# Altium schematic symbol library CompleteLibrary.SchLib: 558 symbols (part 3 of 4)
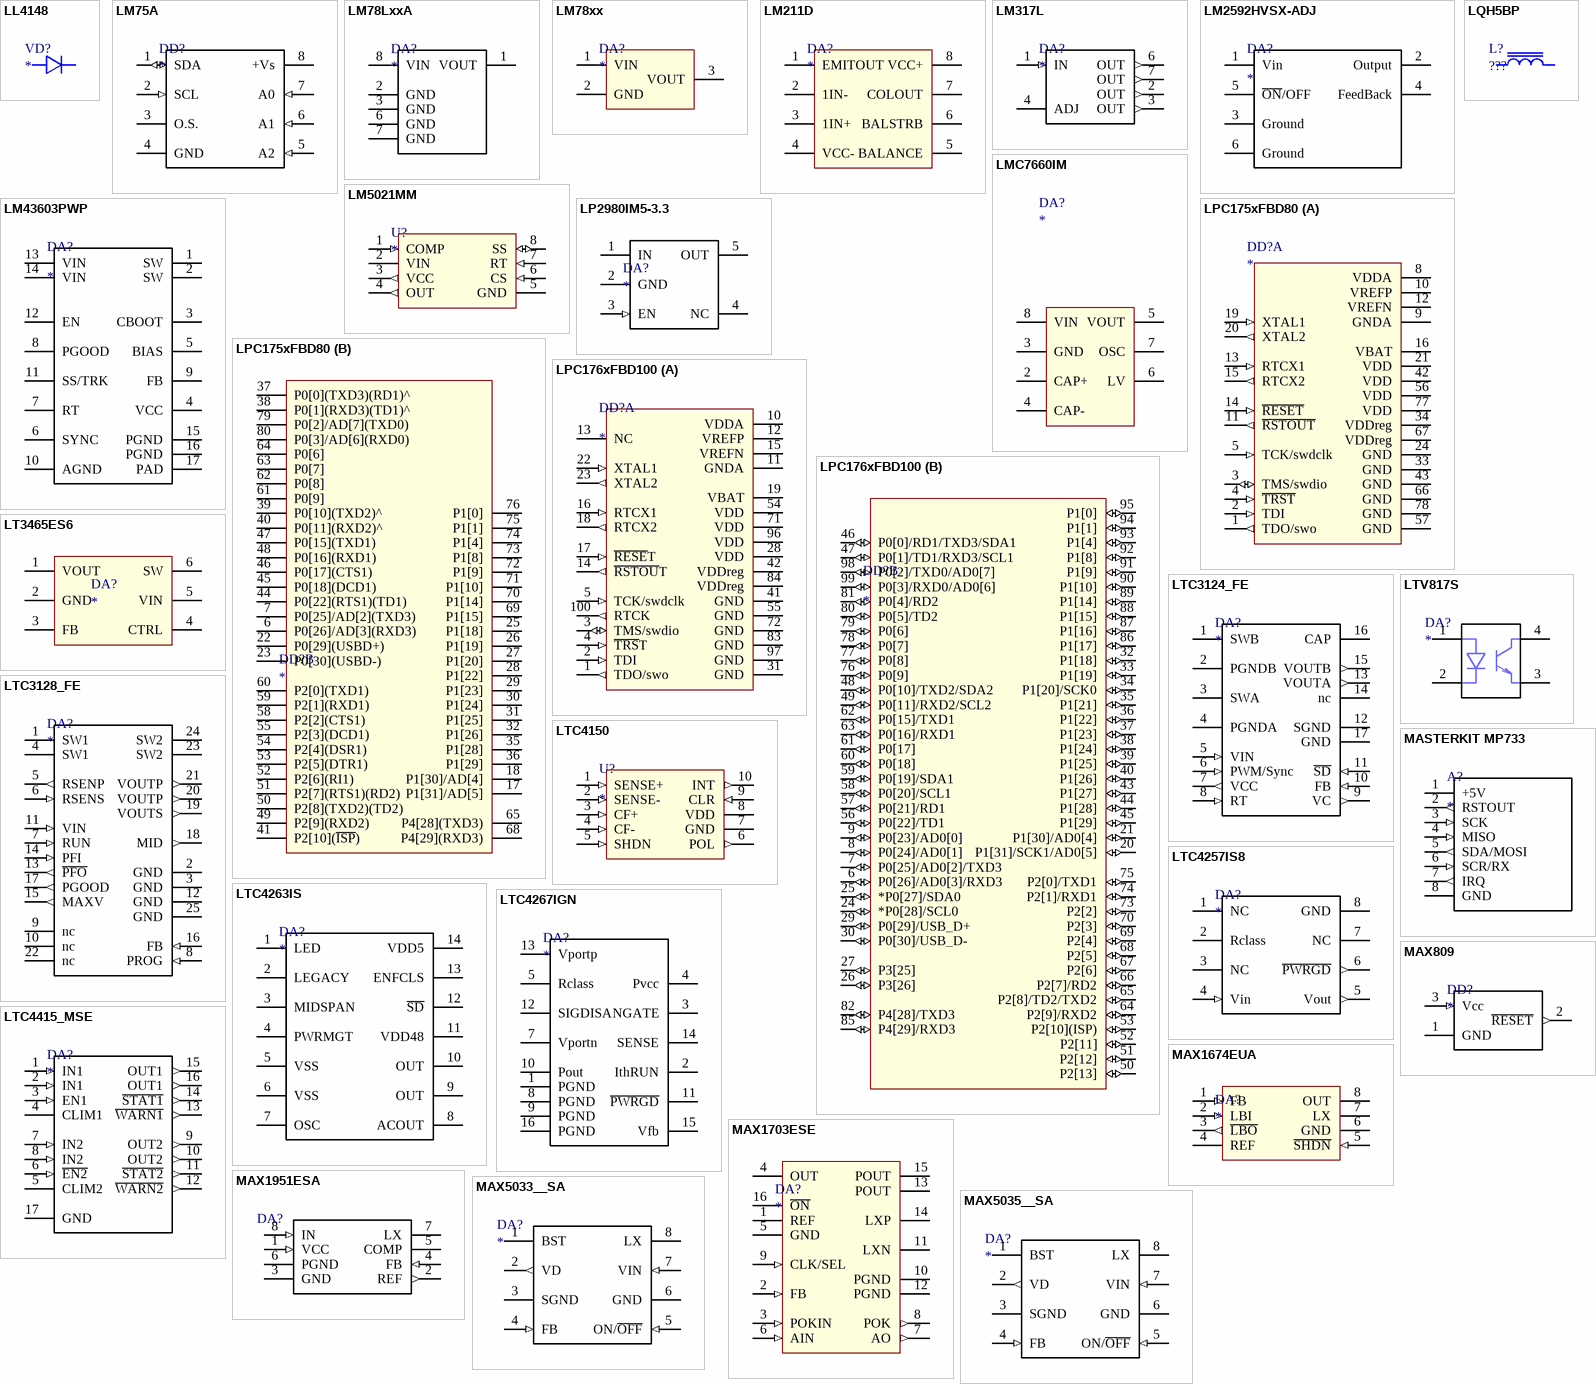
[diagram p27: symbols LL4148 to MAX5035__SA]

## LPC176xFBD100
designator DD?
IC 32-bit ARM Cortex-M3 microcontroller; Описание: ???; NumberSolderPointsSMD: 0; Аналог: нет; NumberSolderPointsTHT: 0
footprint TQFP100
part A pins: 1 TDO/swo (out), 2 TDI (in), 3 TMS/swdio (io), 4 ~{TRS}T (in), 5 TCK/swdclk (in), 10 VDDA (power), 11 GNDA (power), 12 VREFP (power), 13 NC, 14 ~{RSTOU}T (out), 15 VREFN (power), 16 RTCX1 (in), 17 ~{RESE}T (in), 18 RTCX2 (out), 19 VBAT (power), 22 XTAL1 (in), 23 XTAL2 (out), 28 VDD (power), 31 GND (power), 41 GND (power), 42 VDDreg (power), 54 VDD (power), 55 GND (power), 71 VDD (power), 72 GND (power), 83 GND (power), 84 VDDreg (power), 96 VDD (power), 97 GND (power), 100 RTCK (out)
part B pins: 6 P0[26]/AD0[3]/RXD3 (io), 7 P0[25]/AD0[2]/TXD3 (io) "/AD0[2]/I2SRX_SDA/TXD3", 8 P0[24]/AD0[1] (io) "/AD0[1]/I2SRX_WS/CAP3[1]", 9 P0[23]/AD0[0] (io) "/AD0[0]/I2SRX_CLK/CAP3[0]", 20 P1[31]/SCK1/AD0[5] (io) "/SCK1/AD0[5]", 21 P1[30]/AD0[4] (io) "/VBUS/AD0[4]", 24 *P0[28]/SCL0 (io) "/SCL0/USB_SCL", 25 *P0[27]/SDA0 (io) "/SDA0/USB_SDA", 26 P3[26] (io) "/STCLK/MAT0[1]/PWM1[3]", 27 P3[25] (io) "/MAT0[0]/PWM1[2]", 29 P0[29]/USB_D+ (io) "/USB_D+", 30 P0[30]/USB_D- (io) "/USB_D-", 32 P1[18] (io) "/USB_UP_LED/PWM1[1]/CAP1[0]", 33 P1[19] (io) "/MCOA0/USB_PPWR/CAP1[1]", 34 P1[20]/SCK0 (io) "/MCI0/PWM1[2]/SCK0", 35 P1[21] (io) "/MCABORT/PWM1[3]/SSEL0", 36 P1[22] (io) "/MCOB0/USB_PWRD/MAT1[0]", 37 P1[23] (io) "/MCI1/PWM1[4]/MISO0", 38 P1[24] (io) "/MCI2/PWM1[5]/MOSI0", 39 P1[25] (io) "/MCOA1/MAT1[1]", 40 P1[26] (io) "/MCOB1/PWM1[6]/CAP0[0]", 43 P1[27] (io) "/CLKOUT/USB_OVRCR/CAP0[1]", 44 P1[28] (io) "/MCOA2/PCAP1[0]/MAT0[0]", 45 P1[29] (io) "/MCOB2/PCAP1[1]/MAT0[1]", 46 P0[0]/RD1/TXD3/SDA1 (io) "/RD1/TXD3/SDA1", 47 P0[1]/TD1/RXD3/SCL1 (io) "/TD1/RXD3/SCL1", 48 P0[10]/TXD2/SDA2 (io) "/TXD2/SDA2/MAT3[0]", 49 P0[11]/RXD2/SCL2 (io) "/RXD2/SCL2/MAT3[1]", 50 P2[13] (io) "/EINT3/I2STX_SDA", 51 P2[12] (io) "/EINT2/I2STX_WS", 52 P2[11] (io) "/EINT1/I2STX_CLK", 53 P2[10](ISP) (io) "/EINT0/NMI", 56 P0[22]/TD1 (io) "/RTS1/TD1", 57 P0[21]/RD1  (io) "/RI1/RD1", 58 P0[20]/SCL1 (io) "/DTR1/SCL1", 59 P0[19]/SDA1 (io) "/DSR1/SDA1", 60 P0[18] (io) "/DCD1/MOSI0/MOSI", 61 P0[17] (io) "/CTS1/MISO0/MISO", 62 P0[15]/TXD1 (io) "/TXD1/SCK0/SCK", 63 P0[16]/RXD1 (io) "/RXD1/SSEL0/SSEL", 64 P2[9]/RXD2 (io) "/USB_CONNECT/RXD2", 65 P2[8]/TD2/TXD2 (io) "/TD2/TXD2", 66 P2[7]/RD2 (io) "/RD2/RTS1", 67 P2[6] (io) "/PCAP1[0]/RI1/TRACECLK", 68 P2[5] (io) "/PWM1[6]/DTR1/TRACEDATA[0]", 69 P2[4] (io) "/PWM1[5]/DSR1/TRACEDATA[1]", 70 P2[3] (io) "/PWM1[4]/DCD1/TRACEDATA[2]", 73 P2[2] (io) "/PWM1[3]/CTS1/TRACEDATA[3]", 74 P2[1]/RXD1 (io) "/PWM1[2]/RXD1", 75 P2[0]/TXD1 (io) "/PWM1[1]/TXD1", 76 P0[9] (io) "/I2STX_SDA/MOSI1/MAT2[3]", 77 P0[8] (io) "/I2STX_WS/MISO1/MAT2[2]", 78 P0[7] (io) "/I2STX_CLK/SCK1/MAT2[1]", 79 P0[6] (io) "/I2SRX_SDA/SSEL1/MAT2[0]", 80 P0[5]/TD2 (io) "/I2SRX_WS/TD2/CAP2[1]", 81 P0[4]/RD2 (io) "/I2SRX_CLK/RD2/CAP2[0]", 82 P4[28]/TXD3 (io) "/RX_MCLK/MAT2[0]/TXD3", 85 P4[29]/RXD3 (io) "/TX_MCLK/MAT2[1]/RXD3", 86 P1[17] (io) "/ENET_MDIO", 87 P1[16] (io) "/ENET_MDC", 88 P1[15] (io) "/ENET_REF_CLK", 89 P1[14] (io) "/ENET_RX_ER", 90 P1[10] (io) "/ENET_RXD1", 91 P1[9] (io) "/ENET_RXD0", 92 P1[8] (io) "/ENET_CRS", 93 P1[4] (io) "/ENET_TX_EN", 94 P1[1] (io) "/ENET_TXD1", 95 P1[0] (io) "/ENET_TXD0", 98 P0[2]/TXD0/AD0[7] (io) "/TXD0/AD0[7]", 99 P0[3]/RXD0/AD0[6] (io) "/RXD0/AD0[6]"

## LQH5BP
designator L?, comment ???
MAGNETIC Inductor SMD 2020 2.2mm; Описание: Индуктивность SMD 2020; NumberSolderPointsSMD: 0; Аналог: нет; NumberSolderPointsTHT: 0
footprint LQH5BP
pins: 1, 2

## LT3465ES6
designator DA?
IC 1.2MHz White LED Drivers with Built-in  Schottky; Описание: ???; NumberSolderPointsSMD: 0; Аналог: нет; NumberSolderPointsTHT: 0
footprint SOT23-6
pins: 1 VOUT, 2 GND, 3 FB, 4 CTRL, 5 VIN, 6 SW

## LTC3124_FE
designator DA?
IC 5A Step-Up; Аналог: нет; Описание: ???
footprint TSSOP16_LTC
pins: 1 SWB, 2 PGNDB, 3 SWA, 4 PGNDA, 5 VIN (in), 6 PWM/Sync (in), 7 VCC (out), 8 RT (in), 9 VC (out), 10 FB (in), 11 ~{SD} (in), 12 SGND, 13 VOUTA (out), 14  nc, 15 VOUTB (out), 16 CAP, 17 GND

## LTC3128_FE
designator DA?
IC 3A Supercapacitor Charger; Аналог: нет; Описание: ???
footprint TSSOP24_LTC
pins: 1 SW1 (power), 2 GND (power), 3 GND (power), 4 SW1 (power), 5 RSENP (out), 6 RSENS (in), 7 RUN (in), 8 PROG (in), 9 nc (power), 10 nc (power), 11 VIN (in), 12 GND (power), 13 ~{PFO} (out), 14 PFI (in), 15 MAXV (out), 16 FB (in), 17 PGOOD (out), 18 MID (out), 19 VOUTS (out), 20 VOUTP (out), 21 VOUTP (out), 22 nc (power), 23 SW2 (power), 24 SW2 (power), 25 GND (power)

## LTC4150
designator U?
IC Coulomb Counter/Battery Gas Gauge; Описание: ???; NumberSolderPointsSMD: 0; Аналог: нет; NumberSolderPointsTHT: 0
pins: 1 SENSE+ (in), 2 SENSE- (in), 3 CF+ (in), 4 CF- (in), 5 SHDN (in), 6 POL (out), 7 GND (power), 8 VDD (power), 9 CLR (in), 10 INT (out)

## LTC4257IS8
designator DA?
IC PoE interface controller; Аналог: нет; Описание: Микросхема SO8
footprint SO8
pins: 1 NC, 2 Rclass, 3 NC, 4 Vin (in), 5 Vout (out), 6 ~{PWRGD} (out), 7 NC, 8 GND (power)

## LTC4263IS
designator DA?
IC; Описание: Микросхема SO14; Аналог: нет
footprint SO14
pins: 1 LED, 2 LEGACY, 3 MIDSPAN, 4 PWRMGT, 5 VSS, 6 VSS, 7 OSC, 8 ACOUT, 9 OUT, 10 OUT, 11 VDD48, 12 ~{SD}, 13 ENFCLS, 14 VDD5

## LTC4267IGN
designator DA?
IC PoE interface; Аналог: нет; Описание: ???
footprint SSOP16_ADS7846E
pins: 1 PGND, 2 IthRUN, 3 NGATE, 4 Pvcc, 5 Rclass, 7 Vportn, 8 PGND, 9 PGND, 10 Pout, 11 ~{PWRGD}, 12 SIGDISA, 13 Vportp, 14 SENSE, 15 Vfb, 16 PGND

## LTC4415_MSE
designator DA?
IC Dual 4A Ideal Diodes; Аналог: нет; Описание: ???
footprint MSOP16_LTC
pins: 1 IN1 (in), 2 IN1 (in), 3 EN1 (in), 4 CLIM1, 5 CLIM2, 6 ~{EN2} (in), 7 IN2 (in), 8 IN2 (in), 9 OUT2 (out), 10 OUT2 (out), 11 ~{STAT2} (out), 12 ~{WARN2} (out), 13 ~{WARN1} (out), 14 ~{STAT1} (out), 15 OUT1 (out), 16 OUT1 (out), 17 GND (power)

## LTV817S
designator DA?
IC Photocoupler; Описание: Оптрон SO4; NumberSolderPointsSMD: 0; Аналог: нет; NumberSolderPointsTHT: 0
footprint SO4_LTV817S
pins: 1, 2, 3, 4

## MASTERKIT MP733
designator A?
MODULE RADIO; Описание: Радиомодуль; Аналог: нет
footprint MASTERKIT MP733
pins: 1 +5V (power), 2 RSTOUT (out), 3 SCK (in), 4 MISO (in), 5 SDA/MOSI (out), 6 SCR/RX (in), 7 IRQ (out), 8 GND (power)

## MAX809
designator DD?
IC 3-pin microprocessor resets; Описание: ???; NumberSolderPointsSMD: 0; Аналог: нет; NumberSolderPointsTHT: 0
footprint SOT23
pins: 1 GND (power), 2 ~{RESET} (out), 3 Vcc (in)

## MAX1674EUA
designator DA?
IC Step-Up DC-DC Converter; Описание: ???; NumberSolderPointsSMD: 0; Аналог: нет; NumberSolderPointsTHT: 0
footprint uMAX8_MAX1674
pins: 1 FB (in), 2 LBI (in), 3 ~{LBO} (out), 4 REF, 5 ~{SHDN} (in), 6 GND (power), 7 LX (power), 8 OUT (power)

## MAX1703ESE
designator DA?
IC 0.7V to 5.5V Input, High-Power (1.5A), Low-Noise, Step-Up DC-DC Converter; Описание: ???; NumberSolderPointsSMD: 0; Аналог: нет; NumberSolderPointsTHT: 0
footprint SO16
pins: 1 REF, 2 FB (in), 3 POKIN (in), 4 OUT, 5 GND, 6 AIN (in), 7 AO (out), 8 POK (out), 9 CLK/SEL (in), 10 PGND, 11 LXN, 12 PGND, 13 POUT, 14 LXP, 15 POUT, 16 ~{ON}

## MAX1951ESA
designator DA?  (value not drawn)
IC 1MHz, 2.6V to 5.5V Input, 2A PWM Step-Down DC-to-DC Regulator, Adjustable Output from 0.8V to VIN; Описание: ???; NumberSolderPointsSMD: 0; Аналог: нет; NumberSolderPointsTHT: 0
footprint SO8
pins: 1 VCC (in), 2 REF (out), 3 GND (power), 4 FB (in), 5 COMP, 6 PGND (power), 7 LX (power), 8 IN (in)

## MAX5033__SA
designator DA?
IC StepDown 0.5A 7.5..76V 125kHz; Описание: ???; NumberSolderPointsSMD: 8; NumberSolderPointsTHT: 0; Аналог: нет; x: MAX5033AASA: 3.3V  MAX5033BASA: 5.0V  MAX5033CASA: 12.0V  MAX5033DASA: ADJ; Комплект: *
footprint SO8
pins: 1 BST, 2 VD (out), 3 SGND (power), 4 FB (in), 5 ON/~{OFF} (in), 6 GND (power), 7 VIN (in), 8 LX

## MAX5035__SA
designator DA?
IC StepDown 1A 7.5..76V 125kHz; Описание: ???; NumberSolderPointsSMD: 8; NumberSolderPointsTHT: 0; Аналог: нет; x: MAX5035AASA: 3.3V  MAX5035BASA: 5.0V; Комплект: *
footprint SO8
pins: 1 BST, 2 VD (out), 3 SGND (power), 4 FB (in), 5 ON/~{OFF} (in), 6 GND (power), 7 VIN (in), 8 LX

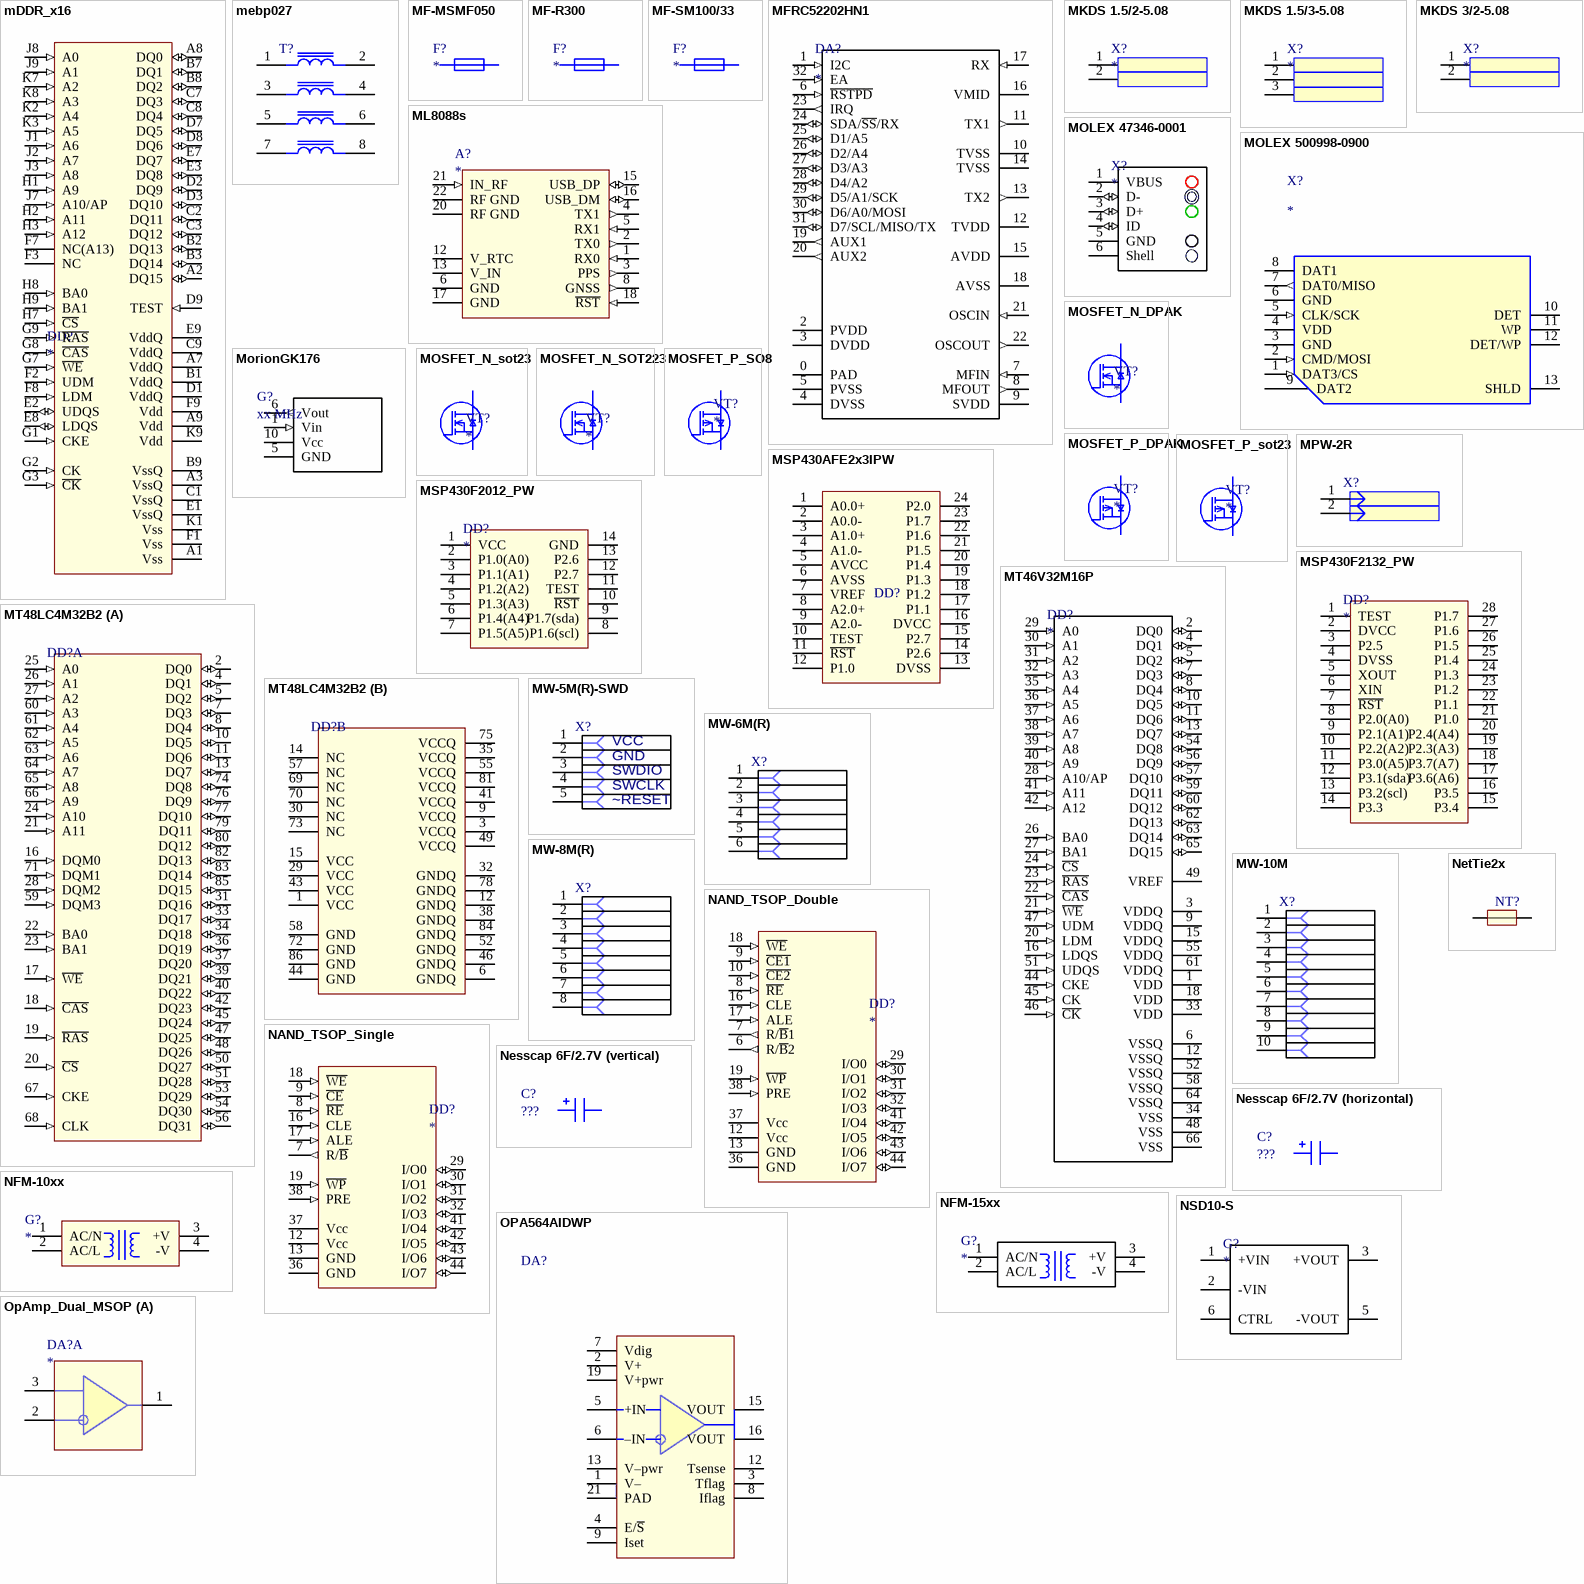
[diagram p14: symbols mDDR_x16 to OpAmp_Dual_MSOP]

## mDDR_x16
designator DD?
IC Mobile Low-Power DDR SDRAM; Описание: ???; NumberSolderPointsSMD: 0; Аналог: нет; NumberSolderPointsTHT: 0
footprint VFBGA60_mDDR
pins: A1 Vss (power), A2 DQ15 (io), A3 VssQ (power), A7 VddQ (power), A8 DQ0 (io), A9 Vdd (power), B1 VddQ (power), B2 DQ13 (io), B3 DQ14 (io), B7 DQ1 (io), B8 DQ2 (io), B9 VssQ (power), C1 VssQ (power), C2 DQ11 (io), C3 DQ12 (io), C7 DQ3 (io), C8 DQ4 (io), C9 VddQ (power), D1 VddQ (power), D2 DQ9 (io), D3 DQ10 (io), D7 DQ5 (io), D8 DQ6 (io), D9 TEST (in), E1 VssQ (power), E2 UDQS (io), E3 DQ8 (io), E7 DQ7 (io), E8 LDQS (io), E9 VddQ (power), F1 Vss (power), F2 UDM (in), F3 NC, F7 NC(A13), F8 LDM (in), F9 Vdd (power), G1 CKE (in), G2 CK (in), G3 ~{CK} (in), G7 ~{WE} (in), G8 ~{CAS} (in), G9 ~{RAS} (in), H1 A9 (in), H2 A11 (in), H3 A12 (in), H7 ~{CS} (in), H8 BA0 (in), H9 BA1 (in), J1 A6 (in), J2 A7 (in), J3 A8 (in), J7 A10/AP (in), J8 A0 (in), J9 A1 (in), K1 Vss (power), K2 A4 (in), K3 A5 (in), K7 A2 (in), K8 A3 (in), K9 Vdd (power)

## mebp027
designator T?  (value not drawn)
SUBCIRCUIT; Описание: Синфазный фильтр; Аналог: нет
footprint SUBCIRCUIT_mebp027
pins: 1 0, 2 0, 3 0, 4 0, 5 0, 6 0, 7 0, 8 0

## MF-MSMF050
designator F?
RESISTOR PTC Resettable Fuse; Описание: ???; NumberSolderPointsSMD: 0; Аналог: нет; NumberSolderPointsTHT: 0
footprint MF-MSMF050
pins: 1, 2

## MF-R300
designator F?
RESISTOR PTC Resettable Fuse; Описание: Предохранитель; NumberSolderPointsSMD: 0; Аналог: нет; NumberSolderPointsTHT: 0
footprint MF-R300
pins: 1, 2

## MF-SM100/33
designator F?
RESISTOR PTC Resettable Fuse; Описание: ???; NumberSolderPointsSMD: 0; Аналог: нет; NumberSolderPointsTHT: 0
footprint MF-SM100/33
pins: 1, 2

## MFRC52202HN1
designator DA?
IC MIFARE frontend; Описание: Микросхема QFN32; Комплект: *; Аналог: *
footprint SOT617-1
pins: 0 PAD (power), 1 I2C (in), 2 PVDD (power), 3 DVDD (power), 4 DVSS (power), 5 PVSS (power), 6 ~{RSTPD} (in), 7 MFIN (in), 8 MFOUT (out), 9 SVDD (power), 10 TVSS (power), 11 TX1 (out), 12 TVDD (power), 13 TX2 (out), 14 TVSS (power), 15 AVDD (power), 16 VMID (power), 17 RX (in), 18 AVSS (power), 19 AUX1 (out), 20 AUX2 (out), 21 OSCIN (in), 22 OSCOUT (out), 23 IRQ (out), 24 SDA/~{SS}/RX (io), 25 D1/A5 (io), 26 D2/A4 (io), 27 D3/A3 (io), 28 D4/A2 (io), 29 D5/A1/SCK (io), 30 D6/A0/MOSI (io), 31 D7/SCL/MISO/TX (io), 32 EA (in)

## MKDS 1.5/2-5.08
designator X?
CONNECTOR TERMINAL pitch=5.08mm; Описание: ???; NumberSolderPointsSMD: 0; Аналог: нет; NumberSolderPointsTHT: 0
footprint MKDS 1.5/2-5.08
pins: 1, 2

## MKDS 1.5/3-5.08
designator X?
CONNECTOR TERMINAL pitch=5.08mm; Описание: ???; NumberSolderPointsSMD: 0; Аналог: нет; NumberSolderPointsTHT: 0
footprint MKDS 1.5/3-5.08
pins: 1, 2, 3

## MKDS 3/2-5.08
designator X?
CONNECTOR TERMINAL pitch=5.08mm; Описание: ???; NumberSolderPointsSMD: 0; Аналог: нет; NumberSolderPointsTHT: 0
footprint MKDS 3/2-5.08
pins: 1, 2

## ML8088s
designator A?
MODULE RADIO GPS/GLONASS; Описание: ???; NumberSolderPointsSMD: 0; Аналог: нет; NumberSolderPointsTHT: 0
footprint ML8088s
pins: 1 RX0 (in), 2 TX0 (out), 3 PPS (out), 4 TX1 (out), 5 RX1 (in), 6 GND (power), 8 GNSS (out), 12 V_RTC (power), 13 V_IN (power), 15 USB_DP (io), 16 USB_DM (io), 17 GND (power), 18 ~{RST} (in), 20 RF GND (power), 21 IN_RF (in), 22 RF GND (power)

## MOLEX 47346-0001
designator X?
CONNECTOR USB micro B; Описание: Разъем USB micro; NumberSolderPointsSMD: 0; Аналог: нет; NumberSolderPointsTHT: 0; x: *
footprint MOLEX 47346-0001
pins: 1 VBUS (power), 2 D- (io), 3 D+ (io), 4 ID (io), 5 GND, 6 Shell

## MOLEX 500998-0900
designator X?
CONNECTOR SD card connector; Описание: Разъем - держатель карты SD/MMC; NumberSolderPointsSMD: 0; Аналог: нет; NumberSolderPointsTHT: 0
footprint MOLEX 500998-0900
pins: 1 DAT3/CS (in), 2 CMD/MOSI (in), 3 GND, 4 VDD, 5 CLK/SCK (in), 6 GND, 7 DAT0/MISO (out), 8 DAT1, 9 DAT2, 10 DET, 11 WP, 12 DET/WP, 13 SHLD

## MorionGK176
designator G?, comment xx MHz
OSCILLATOR Clock Oscillator; Описание: Кварц. генератор SMD; NumberSolderPointsSMD: 0; Аналог: нет; NumberSolderPointsTHT: 0
footprint MorionGK176
pins: 1 Vin (in), 5 GND (power), 6 Vout (out), 10 Vcc (power)

## MOSFET_N_DPAK
designator VT?
TRANSISTOR MOSFET N generic DPAK; Описание: Транзистор SOT23; NumberSolderPointsSMD: 0; Аналог: нет; NumberSolderPointsTHT: 0
footprint DPAK
pins: 1 G, 2 D, 3 S

## MOSFET_N_sot23
designator VT?
TRANSISTOR MOSFET N generic sot23; Описание: Транзистор SOT23; NumberSolderPointsSMD: 0; Аналог: нет; x: IRLML2402; NumberSolderPointsTHT: 0
footprint SOT23
pins: 1 G, 2 S, 3 D

## MOSFET_N_SOT223
designator VT?
TRANSISTOR MOSFET N generic sot23; Описание: Транзистор SOT223; NumberSolderPointsSMD: 0; Аналог: нет; x: IRLL2705(55v,3.8A,0.04ohm); NumberSolderPointsTHT: 0
footprint SOT223
pins: 1 G, 2 D, 3 S

## MOSFET_P_DPAK
designator VT?
TRANSISTOR MOSFET P generic DPAK; Описание: Транзистор MOSFET P-канальный; NumberSolderPointsSMD: 0; Аналог: нет; NumberSolderPointsTHT: 0
footprint DPAK
pins: 1 G, 2 D, 3 S

## MOSFET_P_SO8
designator VT?
TRANSISTOR MOSFET P generic SO8; Описание: Транзистор SO8; NumberSolderPointsSMD: 0; NumberSolderPointsTHT: 8; Аналог: нет; x: IRF7410(12v,0.01ohm)
footprint SO8
pins: 1 S, 2 S, 3 S, 4 G, 5 D, 6 D, 7 D, 8 D

## MOSFET_P_sot23
designator VT?
TRANSISTOR MOSFET P generic sot23; Описание: Транзистор SOT23; NumberSolderPointsSMD: 0; Аналог: нет; x: IRLML6402; NumberSolderPointsTHT: 0
footprint SOT23
pins: 1 G, 2 S, 3 D

## MPW-2R
designator X?  (value not drawn)
CONNECTOR 5.08mm; Описание: Разъем; NumberSolderPointsSMD: 0; Аналог: нет; NumberSolderPointsTHT: 0
footprint MPW-2R
pins: 1, 2

## MSP430AFE2x3IPW
designator DD?  (value not drawn)
IC UC/UP Ultra-low-power microcontroller; Описание: ???; NumberSolderPointsSMD: 0; Аналог: нет; NumberSolderPointsTHT: 0
footprint TSSOP24_MSP430
pins: 1 A0.0+ "/SBWTCK", 2 A0.0- "VCC", 3 A1.0+ "/ROSC/CA5", 4 A1.0- "GND", 5 AVCC "/P2.7/CA7", 6 AVSS "/P2.6/CA6", 7 VREF "/NMI/SBWTDIO", 8 A2.0+ "/ACLK/A0/CA2", 9 A2.0- "/TAINCLK/SMCLK/A1/CA3", 10 TEST "/TA0.0/A2/CA4/CAOUT", 11 ~{RST} "/UCB0STE/UCA0CLK/A5", 12 P1.0 "/UCB0SIMO/UCB0SDA", 13 DVSS "/UCA0TXD/UCA0SIMO", 14 P2.6 "/UCA0TXD/UCA0SIMO", 15 P2.7 "/UCA0TXD/UCA0SIMO", 16 DVCC "/UCA0RXD/UCA0SOMI", 17 P1.1 "/TA1.0/A6", 18 P1.2 "/TA1.1/A7", 19 P1.3 "/TA0.1/A3/", 20 P1.4 "/TA0.2/A4/", 21 P1.5 "/TACLK/ADC10CLK/CAOUT", 22 P1.6 "/TA0.0/TA1.0", 23 P1.7 "/TA0.1", 24 P2.0 "/TA0.2"

## MSP430F2012_PW
designator DD?
IC UC/UP Ultra-low-power microcontroller; Описание: ???; NumberSolderPointsSMD: 0; Аналог: нет; NumberSolderPointsTHT: 0
footprint TSSOP14_MSP430
pins: 1 VCC, 2 P1.0(A0), 3 P1.1(A1), 4 P1.2(A2), 5 P1.3(A3), 6 P1.4(A4), 7 P1.5(A5), 8 P1.6(scl), 9 P1.7(sda), 10 ~{RST}, 11 TEST, 12 P2.7, 13 P2.6, 14 GND

## MSP430F2132_PW
designator DD?
IC UC/UP Ultra-low-power microcontroller; Описание: ???; NumberSolderPointsSMD: 0; Аналог: нет; NumberSolderPointsTHT: 0
footprint TSSOP28_MSP430
pins: 1 TEST "/SBWTCK", 2 DVCC "VCC", 3 P2.5 "/ROSC/CA5", 4 DVSS "GND", 5 XOUT "/P2.7/CA7", 6 XIN "/P2.6/CA6", 7 ~{RST} "/NMI/SBWTDIO", 8 P2.0(A0) "/ACLK/A0/CA2", 9 P2.1(A1) "/TAINCLK/SMCLK/A1/CA3", 10 P2.2(A2) "/TA0.0/A2/CA4/CAOUT", 11 P3.0(A5) "/UCB0STE/UCA0CLK/A5", 12 P3.1(sda) "/UCB0SIMO/UCB0SDA", 13 P3.2(scl) "/UCB0SOMI/UCB0SCL", 14 P3.3 "/UCB0CLK/UCA0STE", 15 P3.4 "/UCA0TXD/UCA0SIMO", 16 P3.5 "/UCA0RXD/UCA0SOMI", 17 P3.6(A6) "/TA1.0/A6", 18 P3.7(A7) "/TA1.1/A7", 19 P2.3(A3) "/TA0.1/A3/", 20 P2.4(A4) "/TA0.2/A4/", 21 P1.0 "/TACLK/ADC10CLK/CAOUT", 22 P1.1 "/TA0.0/TA1.0", 23 P1.2 "/TA0.1", 24 P1.3 "/TA0.2", 25 P1.4 "/SMCLK/TCK", 26 P1.5 "/TA0.0/TMS", 27 P1.6 "/TA0.1/TDI/TCLK", 28 P1.7 "/TA0.2/TDO/TDI"

## MT46V32M16P
designator DD?
IC DDR 512Mb 8Meg x 16bit x 4banks; Аналог: нет; Описание: ???
footprint TSSOP66_Micron
pins: 1 VDD (power), 2 DQ0 (io), 3 VDDQ (power), 4 DQ1 (io), 5 DQ2 (io), 6 VSSQ (power), 7 DQ3 (io), 8 DQ4 (io), 9 VDDQ (power), 10 DQ5 (io), 11 DQ6 (io), 12 VSSQ (power), 13 DQ7 (io), 15 VDDQ (power), 16 LDQS (in), 18 VDD (power), 20 LDM (in), 21 ~{WE} (in), 22 ~{CAS} (in), 23 ~{RAS} (in), 24 ~{CS} (in), 26 BA0 (in), 27 BA1 (in), 28 A10/AP (in), 29 A0 (in), 30 A1 (in), 31 A2 (in), 32 A3 (in), 33 VDD (power), 34 VSS (power), 35 A4 (in), 36 A5 (in), 37 A6 (in), 38 A7 (in), 39 A8 (in), 40 A9 (in), 41 A11 (in), 42 A12 (in), 44 CKE (in), 45 CK (in), 46 ~{CK} (in), 47 UDM (in), 48 VSS (power), 49 VREF (power), 51 UDQS (in), 52 VSSQ (power), 54 DQ8 (io), 55 VDDQ (power), 56 DQ9 (io), 57 DQ10 (io), 58 VSSQ (power), 59 DQ11 (io), 60 DQ12 (io), 61 VDDQ (power), 62 DQ13 (io), 63 DQ14 (io), 64 VSSQ (power), 65 DQ15 (io), 66 VSS (power)

## MT48LC4M32B2
designator DD?  (value not drawn)
IC 128MBit SDRAM x32; Описание: ???; NumberSolderPointsSMD: 0; Аналог: нет; NumberSolderPointsTHT: 0
footprint TSOP86_MT48LC4M32B2
part A pins: 2 DQ0 (io), 4 DQ1 (io), 5 DQ2 (io), 7 DQ3 (io), 8 DQ4 (io), 10 DQ5 (io), 11 DQ6 (io), 13 DQ7 (io), 16 DQM0 (in), 17 ~{WE} (in), 18 ~{CAS} (in), 19 ~{RAS} (in), 20 ~{CS} (in), 21 A11 (in), 22 BA0 (in), 23 BA1 (in), 24 A10 (in), 25 A0 (in), 26 A1 (in), 27 A2 (in), 28 DQM2 (in), 31 DQ16 (io), 33 DQ17 (io), 34 DQ18 (io), 36 DQ19 (io), 37 DQ20 (io), 39 DQ21 (io), 40 DQ22 (io), 42 DQ23 (io), 45 DQ24 (io), 47 DQ25 (io), 48 DQ26 (io), 50 DQ27 (io), 51 DQ28 (io), 53 DQ29 (io), 54 DQ30 (io), 56 DQ31 (io), 59 DQM3 (in), 60 A3 (in), 61 A4 (in), 62 A5 (in), 63 A6 (in), 64 A7 (in), 65 A8 (in), 66 A9 (in), 67 CKE (in), 68 CLK (in), 71 DQM1 (in), 74 DQ8 (io), 76 DQ9 (io), 77 DQ10 (io), 79 DQ11 (io), 80 DQ12 (io), 82 DQ13 (io), 83 DQ14 (io), 85 DQ15 (io)
part B pins: 1 VCC (power), 3 VCCQ (power), 6 GNDQ (power), 9 VCCQ (power), 12 GNDQ (power), 14 NC, 15 VCC (power), 29 VCC (power), 30 NC, 32 GNDQ (power), 35 VCCQ (power), 38 GNDQ (power), 41 VCCQ (power), 43 VCC (power), 44 GND (power), 46 GNDQ (power), 49 VCCQ (power), 52 GNDQ (power), 55 VCCQ (power), 57 NC, 58 GND (power), 69 NC, 70 NC, 72 GND (power), 73 NC, 75 VCCQ (power), 78 GNDQ (power), 81 VCCQ (power), 84 GNDQ (power), 86 GND (power)

## MW-5M(R)-SWD
designator X?
CONNECTOR pitch=2mm; Описание: Разъем, вилка на плату, шаг 2.0мм; NumberSolderPointsSMD: 6; NumberSolderPointsTHT: 0; Аналог: нет; Комплект: MU-5F,DS1066-5 F; x: MW-5M,MW-5MR,DS1066-5 MV,DS1066-5 MR
footprint MW-5M(normal)
footprint MW-5MR(normal)
footprint MW-5M(edge1.5mm)
pins: 1, 2, 3, 4, 5
text: VCC; GND; SWDIO; SWCLK; ~RESET

## MW-6M(R)
designator X?
CONNECTOR pitch=2mm; Описание: Разъем, вилка на плату, шаг 2.0мм; NumberSolderPointsSMD: 6; NumberSolderPointsTHT: 0; Аналог: нет; Комплект: MU-6F
footprint MW-6M(edge1.5mm)
footprint MW-6M(normal)
footprint MW-6MR(normal)
pins: 1, 2, 3, 4, 5, 6

## MW-8M(R)
designator X?
CONNECTOR pitch=2mm; Описание: Разъем, вилка на плату, шаг 2.0мм; NumberSolderPointsSMD: 8; NumberSolderPointsTHT: 0; Аналог: нет; Комплект: MU-8F
footprint MW-8M(edge1.5mm)
footprint MW-8M(normal)
footprint MW-8MR(normal)
pins: 1, 2, 3, 4, 5, 6, 7, 8

## MW-10M
designator X?
CONNECTOR pitch=2mm; Описание: Разъем, вилка на плату, шаг 2.0мм; NumberSolderPointsSMD: 10; NumberSolderPointsTHT: 0; Аналог: нет; Комплект: MU-10F
footprint MW-10M(edge1.5mm)
pins: 1, 2, 3, 4, 5, 6, 7, 8, 9, 10

## NAND_TSOP_Double
designator DD?
IC Standard NAND , TSOP packaged , 2 chips stacked; Описание: ???; NumberSolderPointsSMD: 0; Аналог: нет; NumberSolderPointsTHT: 0
footprint TSOP48_NAND
pins: 6 R/~{B}2 (out), 7 R/~{B}1 (out), 8 ~{RE} (in), 9 ~{CE1} (in), 10 ~{CE2} (in), 12 Vcc (power), 13 GND (power), 16 CLE (in), 17 ALE (in), 18 ~{WE} (in), 19 ~{WP} (in), 29 I/O0 (io), 30 I/O1 (io), 31 I/O2 (io), 32 I/O3 (io), 36 GND (power), 37 Vcc (power), 38 PRE (in), 41 I/O4 (io), 42 I/O5 (io), 43 I/O6 (io), 44 I/O7 (io)

## NAND_TSOP_Single
designator DD?
IC Standard NAND , TSOP packaged , signle chip; Описание: ???; NumberSolderPointsSMD: 0; Аналог: нет; NumberSolderPointsTHT: 0
footprint TSOP48_NAND
pins: 7 R/~{B} (out), 8 ~{RE} (in), 9 ~{CE} (in), 12 Vcc (power), 13 GND (power), 16 CLE (in), 17 ALE (in), 18 ~{WE} (in), 19 ~{WP} (in), 29 I/O0 (io), 30 I/O1 (io), 31 I/O2 (io), 32 I/O3 (io), 36 GND (power), 37 Vcc (power), 38 PRE (in), 41 I/O4 (io), 42 I/O5 (io), 43 I/O6 (io), 44 I/O7 (io)

## Nesscap 6F/2.7V (horizontal)
designator C?, comment ???
CAPACITOR Nesscap 6F/2.7V (horizontal); NumberSolderPointsSMD: 0; Аналог: нет; Описание: ???; NumberSolderPointsTHT: 0
footprint Nesscap 6F/2.7V (horizontal)
pins: 1, 2

## Nesscap 6F/2.7V (vertical)
designator C?, comment ???
CAPACITOR Nesscap 6F/2.7V (vertical); NumberSolderPointsSMD: 0; Аналог: нет; Описание: ???; NumberSolderPointsTHT: 0
footprint Nesscap 6F/2.7V (vertical)
pins: 1, 2

## NetTie2x
designator NT?  (value not drawn)  (net tie, no BOM)
SPECIAL; Описание: ???; NumberSolderPointsSMD: 0; Аналог: нет; NumberSolderPointsTHT: 0
footprint NetTie2x
pins: 1, 2

## NFM-10xx
designator G?
MODULE POWER 10W Output Switching Power Supply; Описание: ???; NumberSolderPointsSMD: 0; Аналог: нет; NumberSolderPointsTHT: 0
footprint NFM-10xx
pins: 1 AC/N (power), 2 AC/L (power), 3 +V (power), 4 -V (power)

## NFM-15xx
designator G?
MODULE POWER 15W Output Switching Power Supply; Описание: ???; NumberSolderPointsSMD: 0; Аналог: нет; NumberSolderPointsTHT: 0
footprint NFM-15xx
pins: 1 AC/N (power), 2 AC/L (power), 3 +V (power), 4 -V (power)

## NSD10-S
designator G?
MODULE POWER 10W DC-DC Regulated Single Output; Описание: Модуль питания; Аналог: нет
footprint NSD10-S
pins: 1 +VIN, 2 -VIN, 3 +VOUT, 5 -VOUT, 6 CTRL

## OPA564AIDWP
designator DA?
IC 1.5A, 24V, 17MHz Power Operational Amplifier; Описание: ???; NumberSolderPointsSMD: 0; Аналог: нет; NumberSolderPointsTHT: 0
footprint HSOP20_OPA564DWP
pins: 1 V–, 2 V+, 3 Tflag, 4 E/~{S}, 5 +IN, 6 –IN, 7 Vdig, 8 Iflag, 9 Iset, 10 V–, 11 V–, 12 Tsense, 13 V–pwr, 14 V–pwr, 15 VOUT, 16 VOUT, 17 V+pwr, 18 V+pwr, 19 V+pwr, 20 V–, 21 PAD

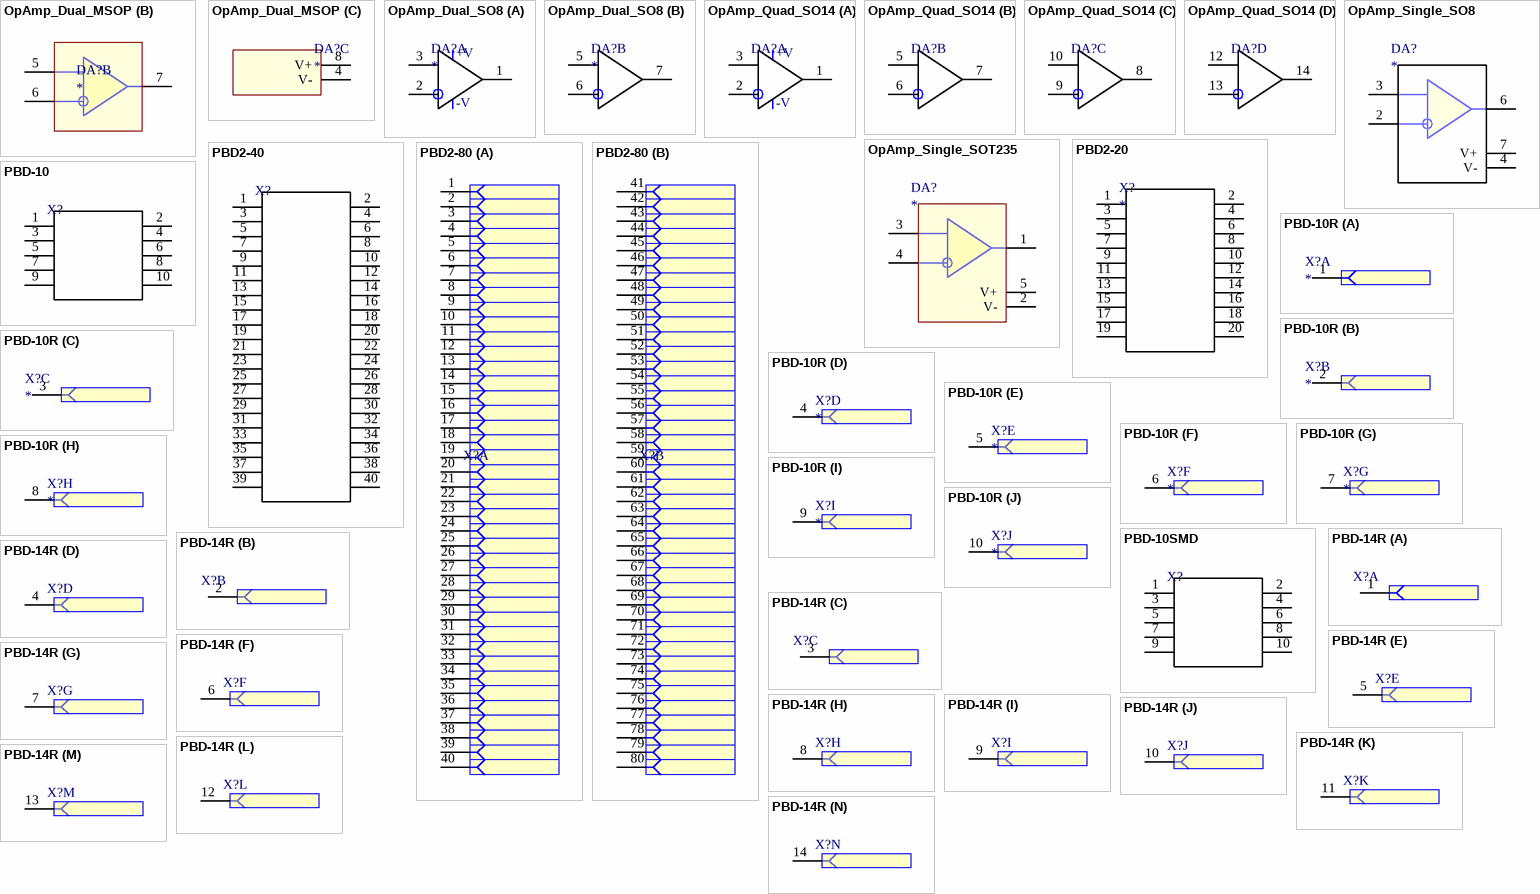
[diagram p15: symbols OpAmp_Dual_MSOP to PBD-14R]

## OpAmp_Dual_MSOP
designator DA?
IC generic dual op amp MSOP; Описание: ???; NumberSolderPointsSMD: 0; Аналог: нет; NumberSolderPointsTHT: 0
footprint MSOP8_ADG801
part A pins: 1, 2, 3
part B pins: 5, 6, 7
part C pins: 4 V-, 8 V+ (power)

## OpAmp_Dual_SO8
designator DA?
IC generic dual op amp SO8; Описание: Микросхема SO8; NumberSolderPointsSMD: 0; Аналог: нет; x: LMV358ID; NumberSolderPointsTHT: 0
footprint SO8
part A pins: 1, 2, 3, 4, 8
part B pins: 5, 6, 7
part A text: +V; -V

## OpAmp_Quad_SO14
designator DA?  (value not drawn)
IC generic quad op amp SO14; Описание: Микросхема SO14; NumberSolderPointsSMD: 0; Аналог: нет; x: LMV324ID; NumberSolderPointsTHT: 0
footprint SO14
part A pins: 1, 2, 3, 4, 11
part B pins: 5, 6, 7
part C pins: 8, 9, 10
part D pins: 12, 13, 14
part A text: +V; -V

## OpAmp_Single_SO8
designator DA?
IC generic single op amp SO8; Описание: Микросхема SO8; NumberSolderPointsSMD: 0; Аналог: нет; NumberSolderPointsTHT: 0
footprint SO8
pins: 2 IN-, 3 IN+, 4 V-, 6 OUT, 7 V+ (power)

## OpAmp_Single_SOT235
designator DA?
IC generic single op amp SOT23-5; Описание: ???; NumberSolderPointsSMD: 0; Аналог: нет; NumberSolderPointsTHT: 0
footprint SOT23-5
pins: 1, 2 V-, 3 IN+, 4 IN-, 5 V+ (power)

## PBD2-20
designator X?
CONNECTOR 2mm pitch , female; Описание: ???; NumberSolderPointsSMD: 0; Аналог: нет; NumberSolderPointsTHT: 0
footprint PBD2-20 (2mm pitch female)
pins: 1, 2, 3, 4, 5, 6, 7, 8, 9, 10, 11, 12, 13, 14, 15, 16, 17, 18, 19, 20

## PBD2-40
designator X?
CONNECTOR 2mm pitch , female; Описание: ???; NumberSolderPointsSMD: 0; Аналог: нет; NumberSolderPointsTHT: 0
footprint PBD2-40 (2mm pitch female)
pins: 1, 2, 3, 4, 5, 6, 7, 8, 9, 10, 11, 12, 13, 14, 15, 16, 17, 18, 19, 20, 21, 22, 23, 24, 25, 26, 27, 28, 29, 30, 31, 32, 33, 34, 35, 36, 37, 38, 39, 40

## PBD2-80
designator X?
CONNECTOR 2mm pitch , female; Описание: ???; NumberSolderPointsSMD: 0; Аналог: нет; NumberSolderPointsTHT: 0
footprint PBD2-80
part A pins: 1, 2, 3, 4, 5, 6, 7, 8, 9, 10, 11, 12, 13, 14, 15, 16, 17, 18, 19, 20, 21, 22, 23, 24, 25, 26, 27, 28, 29, 30, 31, 32, 33, 34, 35, 36, 37, 38, 39, 40
part B pins: 41, 42, 43, 44, 45, 46, 47, 48, 49, 50, 51, 52, 53, 54, 55, 56, 57, 58, 59, 60, 61, 62, 63, 64, 65, 66, 67, 68, 69, 70, 71, 72, 73, 74, 75, 76, 77, 78, 79, 80

## PBD-10
designator X?  (value not drawn)
CONNECTOR; Описание: Гнезда 2x5 шаг 2.54мм; NumberSolderPointsSMD: 0; Аналог: нет; NumberSolderPointsTHT: 0
footprint PBD-10
pins: 1, 2, 3, 4, 5, 6, 7, 8, 9, 10

## PBD-10R
designator X?
CONNECTOR 2.54mm pitch , angled , female; Описание: ???; NumberSolderPointsSMD: 0; Аналог: нет; NumberSolderPointsTHT: 0
footprint PBD-10R
part A pins: 1
part B pins: 2
part C pins: 3
part D pins: 4
part E pins: 5
part F pins: 6
part G pins: 7
part H pins: 8
part I pins: 9
part J pins: 10

## PBD-10SMD
designator X?  (value not drawn)
CONNECTOR; Описание: ???; NumberSolderPointsSMD: 0; Аналог: нет; NumberSolderPointsTHT: 0
footprint PBD-10SMD
pins: 1, 2, 3, 4, 5, 6, 7, 8, 9, 10

## PBD-14R
designator X?  (value not drawn)
CONNECTOR 2.54mm pitch , angled , female; Описание: ???; NumberSolderPointsSMD: 0; Аналог: нет; NumberSolderPointsTHT: 0
footprint PBD-14R
part A pins: 1
part B pins: 2
part C pins: 3
part D pins: 4
part E pins: 5
part F pins: 6
part G pins: 7
part H pins: 8
part I pins: 9
part J pins: 10
part K pins: 11
part L pins: 12
part M pins: 13
part N pins: 14

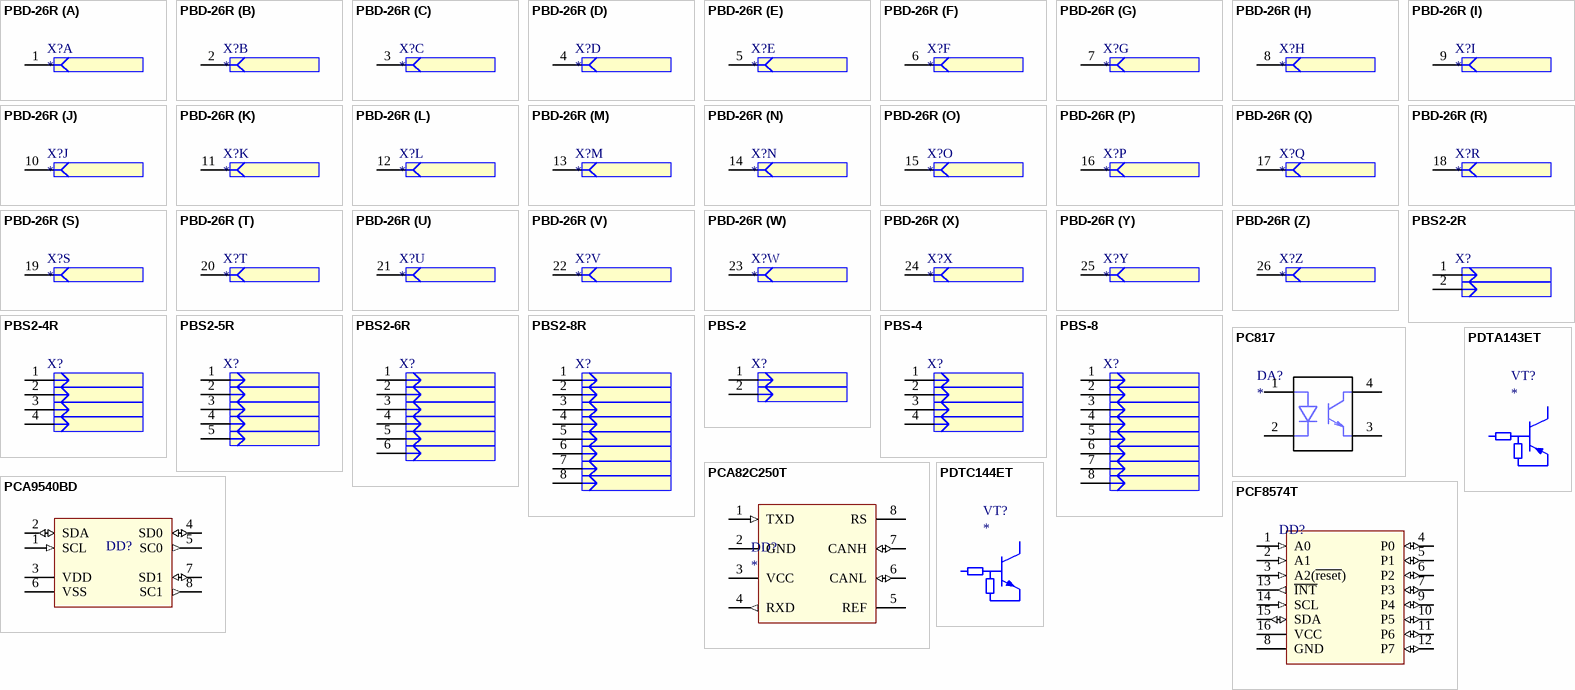
[diagram p16: symbols PBD-26R to PDTC144ET]

## PBD-26R
designator X?
CONNECTOR 2.54mm pitch , angled , female; Описание: ???; NumberSolderPointsSMD: 0; Аналог: нет; NumberSolderPointsTHT: 0
footprint PBD-26R
part A pins: 1
part B pins: 2
part C pins: 3
part D pins: 4  
part E pins: 5
part F pins: 6
part G pins: 7
part H pins: 8
part I pins: 9
part J pins: 10
part K pins: 11
part L pins: 12
part M pins: 13
part N pins: 14
part O pins: 15
part P pins: 16
part Q pins: 17
part R pins: 18
part S pins: 19
part T pins: 20
part U pins: 21
part V pins: 22
part W pins: 23
part X pins: 24
part Y pins: 25
part Z pins: 26

## PBS2-2R
designator X?  (value not drawn)
CONNECTOR; Описание: ???; NumberSolderPointsSMD: 0; Аналог: нет; NumberSolderPointsTHT: 0
footprint PBS2-2R
pins: 1, 2

## PBS2-4R
designator X?  (value not drawn)
CONNECTOR; Описание: ???; NumberSolderPointsSMD: 0; Аналог: нет; NumberSolderPointsTHT: 0
footprint PBS2-4R
pins: 1, 2, 3, 4

## PBS2-5R
designator X?  (value not drawn)
CONNECTOR; Описание: ???; NumberSolderPointsSMD: 0; Аналог: нет; NumberSolderPointsTHT: 0
footprint PBS2-5R
pins: 1, 2, 3, 4, 5

## PBS2-6R
designator X?  (value not drawn)
CONNECTOR; Описание: ???; NumberSolderPointsSMD: 0; Аналог: нет; NumberSolderPointsTHT: 0
footprint PBS2-6R
pins: 1, 2, 3, 4, 5, 6

## PBS2-8R
designator X?  (value not drawn)
CONNECTOR; Описание: ???; NumberSolderPointsSMD: 0; Аналог: нет; NumberSolderPointsTHT: 0
footprint PBS2-8R
pins: 1, 2, 3, 4, 5, 6, 7, 8

## PBS-2
designator X?  (value not drawn)
CONNECTOR; Описание: ???; NumberSolderPointsSMD: 0; Аналог: нет; NumberSolderPointsTHT: 0
footprint PBS-2
pins: 1, 2

## PBS-4
designator X?  (value not drawn)
CONNECTOR; Описание: ???; NumberSolderPointsSMD: 0; Аналог: нет; NumberSolderPointsTHT: 0
footprint PBS-4
pins: 1, 2, 3, 4

## PBS-8
designator X?  (value not drawn)
CONNECTOR; Описание: ???; NumberSolderPointsSMD: 0; Аналог: нет; NumberSolderPointsTHT: 0
footprint PBS-8
pins: 1, 2, 3, 4, 5, 6, 7, 8

## PC817
designator DA?
IC Photocoupler; Описание: ???; NumberSolderPointsSMD: 0; Аналог: нет; NumberSolderPointsTHT: 0
footprint DIP4_PC817
pins: 1, 2, 3, 4

## PCA82C250T
designator DD?
IC CAN controller interface; Описание: ???; NumberSolderPointsSMD: 0; Аналог: нет; NumberSolderPointsTHT: 0
footprint SO8
pins: 1 TXD (in), 2 GND, 3 VCC, 4 RXD (out), 5 REF, 6 CANL (io), 7 CANH (io), 8 RS

## PCA9540BD
designator DD?, comment Power Line Carrier Modem  (value not drawn)
IC 2-channel I2C-bus multiplexer; Описание: ???; NumberSolderPointsSMD: 0; Аналог: нет; NumberSolderPointsTHT: 0
footprint SO8
pins: 1 SCL (in), 2 SDA (io), 3 VDD (power), 4 SD0 (io), 5 SC0 (out), 6 VSS (power), 7 SD1 (io), 8 SC1 (out)

## PCF8574T
designator DD?  (value not drawn)
IC Remote 8-bit I/O expander for I2C-bus; Описание: ???; NumberSolderPointsSMD: 0; Аналог: нет; NumberSolderPointsTHT: 0
footprint SO16W
pins: 1 A0 (in), 2 A1 (in), 3 A2(~{reset}) (in), 4 P0 (io), 5 P1 (io), 6 P2 (io), 7 P3 (io), 8 GND (power), 9 P4 (io), 10 P5 (io), 11 P6 (io), 12 P7 (io), 13 ~{INT} (out), 14 SCL (in), 15 SDA (io), 16 VCC (power)

## PDTA143ET
designator VT?
TRANSISTOR PNP resistors-equipped transistor sot23; Описание: Транзистор SOT23; NumberSolderPointsSMD: 0; Аналог: нет; NumberSolderPointsTHT: 0
footprint SOT23
pins: 1, 2, 3

## PDTC144ET
designator VT?
TRANSISTOR NPN resistors-equipped transistor sot23 (47k,47k); Описание: Транзистор SOT23; NumberSolderPointsSMD: 0; Аналог: нет; NumberSolderPointsTHT: 0
footprint SOT23
pins: 1, 2, 3

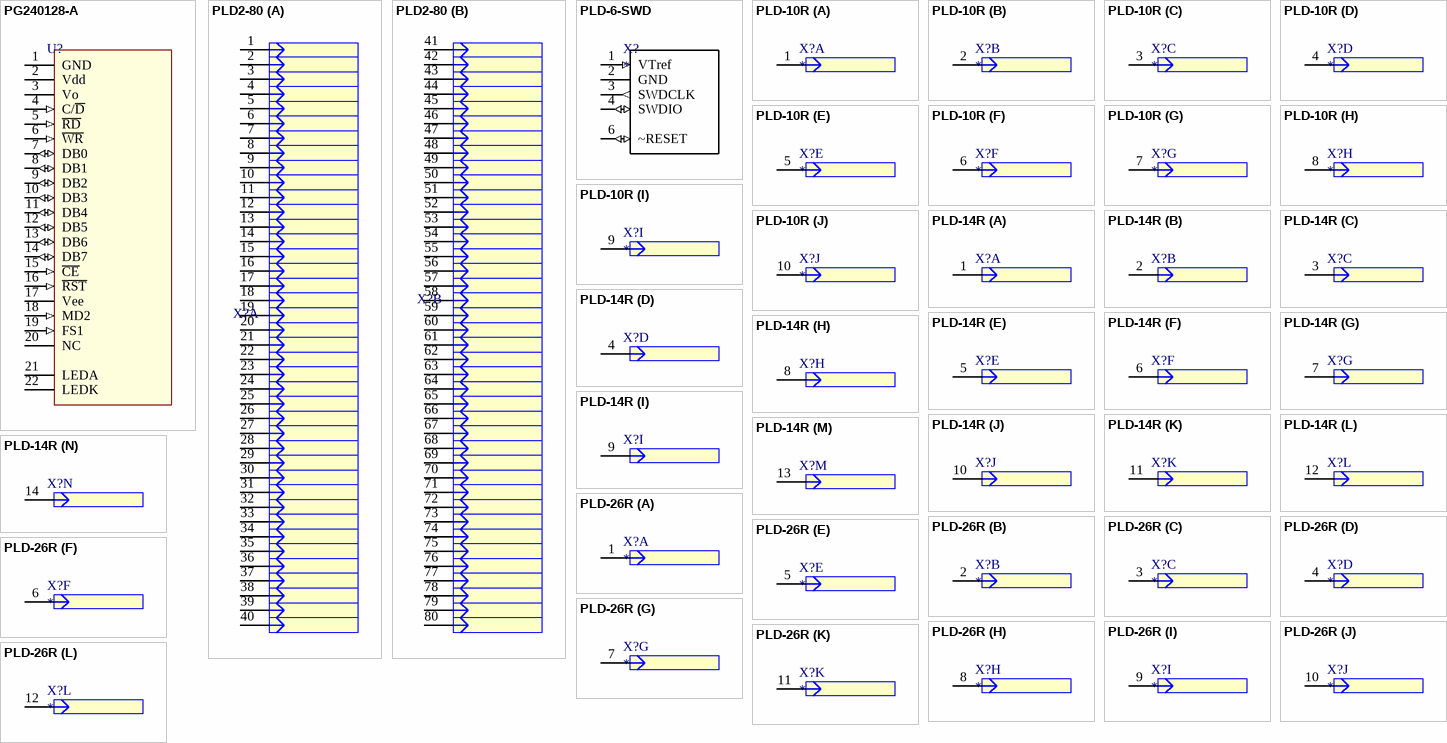
[diagram p17: symbols PG240128-A to PLD-26R]

## PG240128-A
designator U?  (value not drawn)
DISPLAY Powertip graphic LCD module; Описание: ???; NumberSolderPointsSMD: 0; Аналог: нет; NumberSolderPointsTHT: 0
footprint PG240128--A
pins: 1 GND (power), 2 Vdd (power), 3 Vo (power), 4 C/~{D} (in), 5 ~{RD} (in), 6 ~{WR} (in), 7 DB0 (io), 8 DB1 (io), 9 DB2 (io), 10 DB3 (io), 11 DB4 (io), 12 DB5 (io), 13 DB6 (io), 14 DB7 (io), 15 ~{CE} (in), 16 ~{RST} (in), 17 Vee (power), 18 MD2 (in), 19 FS1 (in), 20 NC, 21 LEDA, 22 LEDK

## PLD2-80
designator X?
CONNECTOR 2mm pitch , male; Описание: ???; NumberSolderPointsSMD: 0; Аналог: нет; NumberSolderPointsTHT: 0
footprint PLD2-80
part A pins: 1, 2, 3, 4, 5, 6, 7, 8, 9, 10, 11, 12, 13, 14, 15, 16, 17, 18, 19, 20, 21, 22, 23, 24, 25, 26, 27, 28, 29, 30, 31, 32, 33, 34, 35, 36, 37, 38, 39, 40
part B pins: 41, 42, 43, 44, 45, 46, 47, 48, 49, 50, 51, 52, 53, 54, 55, 56, 57, 58, 59, 60, 61, 62, 63, 64, 65, 66, 67, 68, 69, 70, 71, 72, 73, 74, 75, 76, 77, 78, 79, 80

## PLD-6-SWD
designator X?
CONNECTOR PROGRAM 6-pin SWD connector; Описание: Разъем программатора; NumberSolderPointsSMD: 0; Аналог: нет; NumberSolderPointsTHT: 0
footprint PLD-6-SWD
pins: 1 VTref (in), 2 GND (power), 3 SWDCLK (out), 4 SWDIO (io), 6 ~RESET (io)

## PLD-10R
designator X?
CONNECTOR 2.54mm pitch , angled , male; Описание: ???; NumberSolderPointsSMD: 0; Аналог: нет; NumberSolderPointsTHT: 0
footprint PLD-10R
part A pins: 1
part B pins: 2
part C pins: 3
part D pins: 4
part E pins: 5
part F pins: 6
part G pins: 7
part H pins: 8
part I pins: 9
part J pins: 10

## PLD-14R
designator X?  (value not drawn)
CONNECTOR 2.54mm pitch , angled , male; Описание: ???; NumberSolderPointsSMD: 0; Аналог: нет; NumberSolderPointsTHT: 0
footprint PLD-14R
part A pins: 1
part B pins: 2
part C pins: 3
part D pins: 4
part E pins: 5
part F pins: 6
part G pins: 7
part H pins: 8
part I pins: 9
part J pins: 10
part K pins: 11
part L pins: 12
part M pins: 13
part N pins: 14

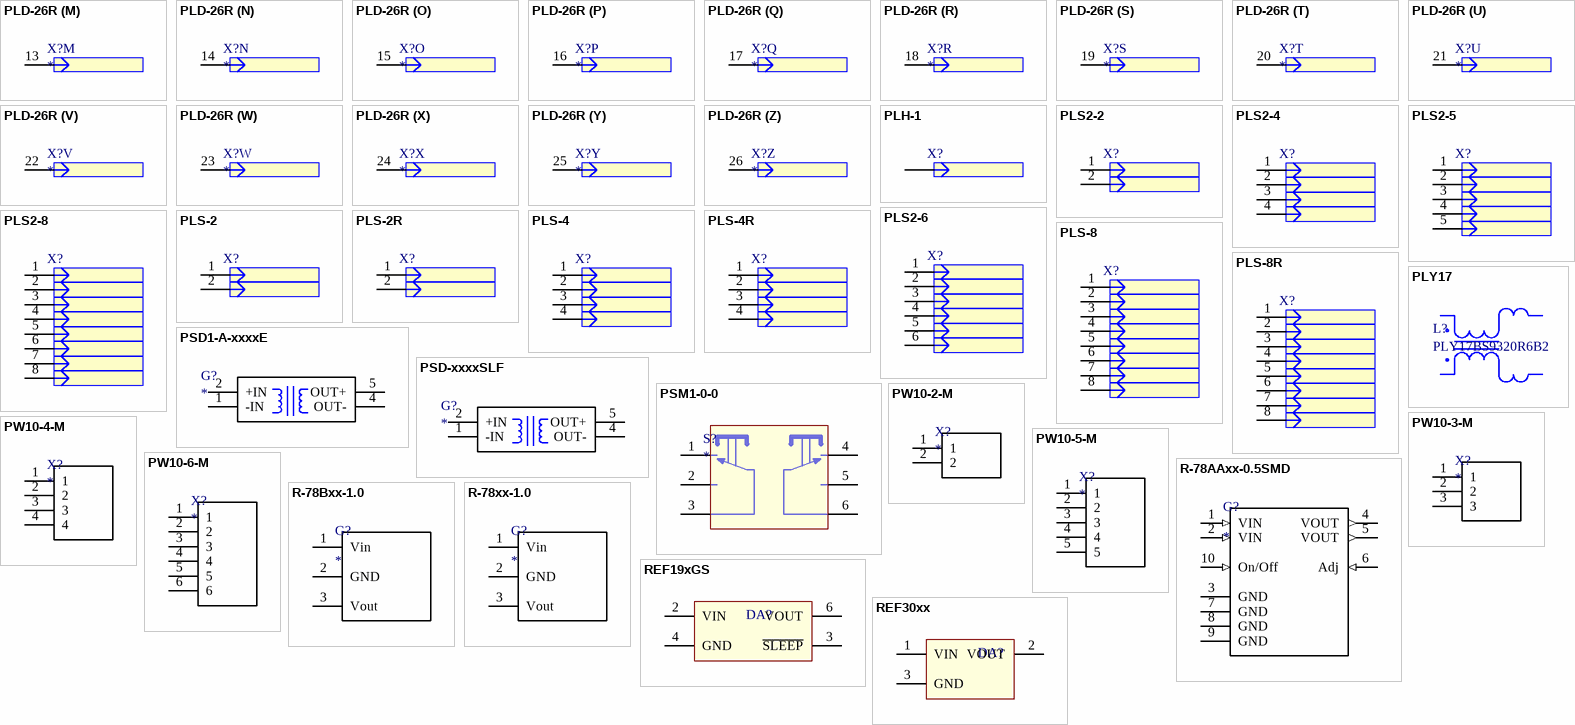
[diagram p18: symbols PLD-26R to REF30xx]

## PLD-26R
designator X?
CONNECTOR 2.54mm pitch , angled , male; Описание: ???; NumberSolderPointsSMD: 0; Аналог: нет; NumberSolderPointsTHT: 0
footprint PLD-26R
part A pins: 1
part B pins: 2
part C pins: 3
part D pins: 4
part E pins: 5
part F pins: 6
part G pins: 7
part H pins: 8
part I pins: 9
part J pins: 10
part K pins: 11
part L pins: 12
part M pins: 13
part N pins: 14
part O pins: 15
part P pins: 16
part Q pins: 17
part R pins: 18
part S pins: 19
part T pins: 20
part U pins: 21
part V pins: 22
part W pins: 23
part X pins: 24
part Y pins: 25
part Z pins: 26

## PLH-1
designator X?  (value not drawn)
Описание: ???; NumberSolderPointsSMD: 0; Аналог: нет; NumberSolderPointsTHT: 0
footprint PLH-1
pins: 1

## PLS2-2
designator X?  (value not drawn)
CONNECTOR; Описание: ???; NumberSolderPointsSMD: 0; Аналог: нет; NumberSolderPointsTHT: 0
footprint PLS2-2
pins: 1, 2

## PLS2-4
designator X?  (value not drawn)
CONNECTOR; Описание: ???; NumberSolderPointsSMD: 0; Аналог: нет; NumberSolderPointsTHT: 0
footprint PLS2-4
pins: 1, 2, 3, 4

## PLS2-5
designator X?  (value not drawn)
CONNECTOR; Описание: ???; NumberSolderPointsSMD: 0; Аналог: нет; NumberSolderPointsTHT: 0
footprint PLS2-5
pins: 1, 2, 3, 4, 5

## PLS2-6
designator X?  (value not drawn)
CONNECTOR; Описание: ???; NumberSolderPointsSMD: 0; Аналог: нет; NumberSolderPointsTHT: 0
footprint PLS2-6
pins: 1, 2, 3, 4, 5, 6

## PLS2-8
designator X?  (value not drawn)
CONNECTOR; Описание: ???; NumberSolderPointsSMD: 0; Аналог: нет; NumberSolderPointsTHT: 0
footprint PLS2-8
pins: 1, 2, 3, 4, 5, 6, 7, 8

## PLS-2
designator X?  (value not drawn)
CONNECTOR; Описание: ???; NumberSolderPointsSMD: 0; Аналог: нет; NumberSolderPointsTHT: 0
footprint PLS-2
pins: 1, 2

## PLS-2R
designator X?  (value not drawn)
CONNECTOR; Описание: ???; NumberSolderPointsSMD: 0; Аналог: нет; NumberSolderPointsTHT: 0
footprint PLS-2R
pins: 1, 2

## PLS-4
designator X?  (value not drawn)
CONNECTOR; Описание: ???; NumberSolderPointsSMD: 0; Аналог: нет; NumberSolderPointsTHT: 0
footprint PLS-4
pins: 1, 2, 3, 4

## PLS-4R
designator X?  (value not drawn)
CONNECTOR; Описание: ???; NumberSolderPointsSMD: 0; Аналог: нет; NumberSolderPointsTHT: 0
footprint PLS-4R
pins: 1, 2, 3, 4

## PLS-8
designator X?  (value not drawn)
CONNECTOR; Описание: ???; NumberSolderPointsSMD: 0; Аналог: нет; NumberSolderPointsTHT: 0
footprint PLS-8
pins: 1, 2, 3, 4, 5, 6, 7, 8

## PLS-8R
designator X?  (value not drawn)
CONNECTOR; Описание: ???; NumberSolderPointsSMD: 0; Аналог: нет; NumberSolderPointsTHT: 0
footprint PLS-8R
pins: 1, 2, 3, 4, 5, 6, 7, 8

## PLY17
designator L?, comment PLY17BS9320R6B2
MAGNETIC Mains filter; Описание: ???; NumberSolderPointsSMD: 0; Аналог: нет; NumberSolderPointsTHT: 0
footprint PLY17
pins: 1, 2, 3, 4

## PSD1-A-xxxxE
designator G?
MODULE POWER DC/DC 1Watt Unregulated SMD Single output; Описание: Модуль питания; NumberSolderPointsSMD: 0; Аналог: нет; NumberSolderPointsTHT: 0
footprint PSD1-A-xxxxE
pins: 1 -IN (power), 2 +IN (power), 4 OUT- (power), 5 OUT+ (power)

## PSD-xxxxSLF
designator G?
MODULE POWER DC/DC 1Watt Unregulated SMD Single output; Описание: Модуль питания; NumberSolderPointsSMD: 0; Аналог: нет; NumberSolderPointsTHT: 0
footprint PSD-xxxxSLF
pins: 1 -IN (power), 2 +IN (power), 4 OUT- (power), 5 OUT+ (power)

## PSM1-0-0
designator S?
SWITCH Button; Описание: ???; NumberSolderPointsSMD: 0; Аналог: нет; NumberSolderPointsTHT: 0
footprint PSM1-0-0
pins: 1, 2, 3, 4, 5, 6

## PW10-2-M
designator X?
CONNECTOR 2.5mm pitch; Описание: Разъем; NumberSolderPointsSMD: 0; Аналог: нет; NumberSolderPointsTHT: 0
footprint PW10-2-M
pins: 1, 2

## PW10-3-M
designator X?
CONNECTOR 2.5mm pitch; Описание: Разъем; NumberSolderPointsSMD: 0; Аналог: нет; NumberSolderPointsTHT: 0
footprint PW10-3-M
pins: 1, 2, 3

## PW10-4-M
designator X?
CONNECTOR 2.5mm pitch; Описание: Разъем; NumberSolderPointsSMD: 0; Аналог: нет; NumberSolderPointsTHT: 0
footprint PW10-4-M
pins: 1, 2, 3, 4

## PW10-5-M
designator X?
CONNECTOR 2.5mm pitch; Описание: Разъем; NumberSolderPointsSMD: 0; Аналог: нет; NumberSolderPointsTHT: 0
footprint PW10-5-M
pins: 1, 2, 3, 4, 5

## PW10-6-M
designator X?
CONNECTOR 2.5mm pitch; Описание: Разъем; NumberSolderPointsSMD: 0; Аналог: нет; NumberSolderPointsTHT: 0
footprint PW10-6-M
pins: 1, 2, 3, 4, 5, 6

## R-78AAxx-0.5SMD
designator G?
MODULE POWER non isolated; Описание: Модуль питания; x: R-78AA3.3-0.5SMD
footprint R-78AAxx-0.5SMD
pins: 1 VIN (in), 2 VIN (in), 3 GND (power), 4 VOUT (out), 5 VOUT (out), 6 Adj (in), 7 GND (power), 8 GND (power), 9 GND (power), 10 On/Off (in)

## R-78Bxx-1.0
designator G?
MODULE POWER non isolated; Аналог: нет; Описание: ???
footprint R-78Bxx-1.0
pins: 1 Vin, 2 GND, 3 Vout

## R-78xx-1.0
designator G?
MODULE POWER non isolated; Аналог: нет; Описание: ???
footprint R-78xx-1.0
pins: 1 Vin, 2 GND, 3 Vout

## REF19xGS
designator DA?  (value not drawn)
IC Precision Micropower Low Dropout Voltage Reference; Описание: Микросхема SO8; NumberSolderPointsSMD: 0; Аналог: нет; NumberSolderPointsTHT: 0
footprint SO8
pins: 2 VIN, 3 ~{SLEEP}, 4 GND, 6 VOUT

## REF30xx
designator DA?  (value not drawn)
IC voltage reference; Описание: Микросхема SOT23; NumberSolderPointsSMD: 3; NumberSolderPointsTHT: 0; Аналог: нет
footprint SOT23
pins: 1 VIN, 2 VOUT, 3 GND

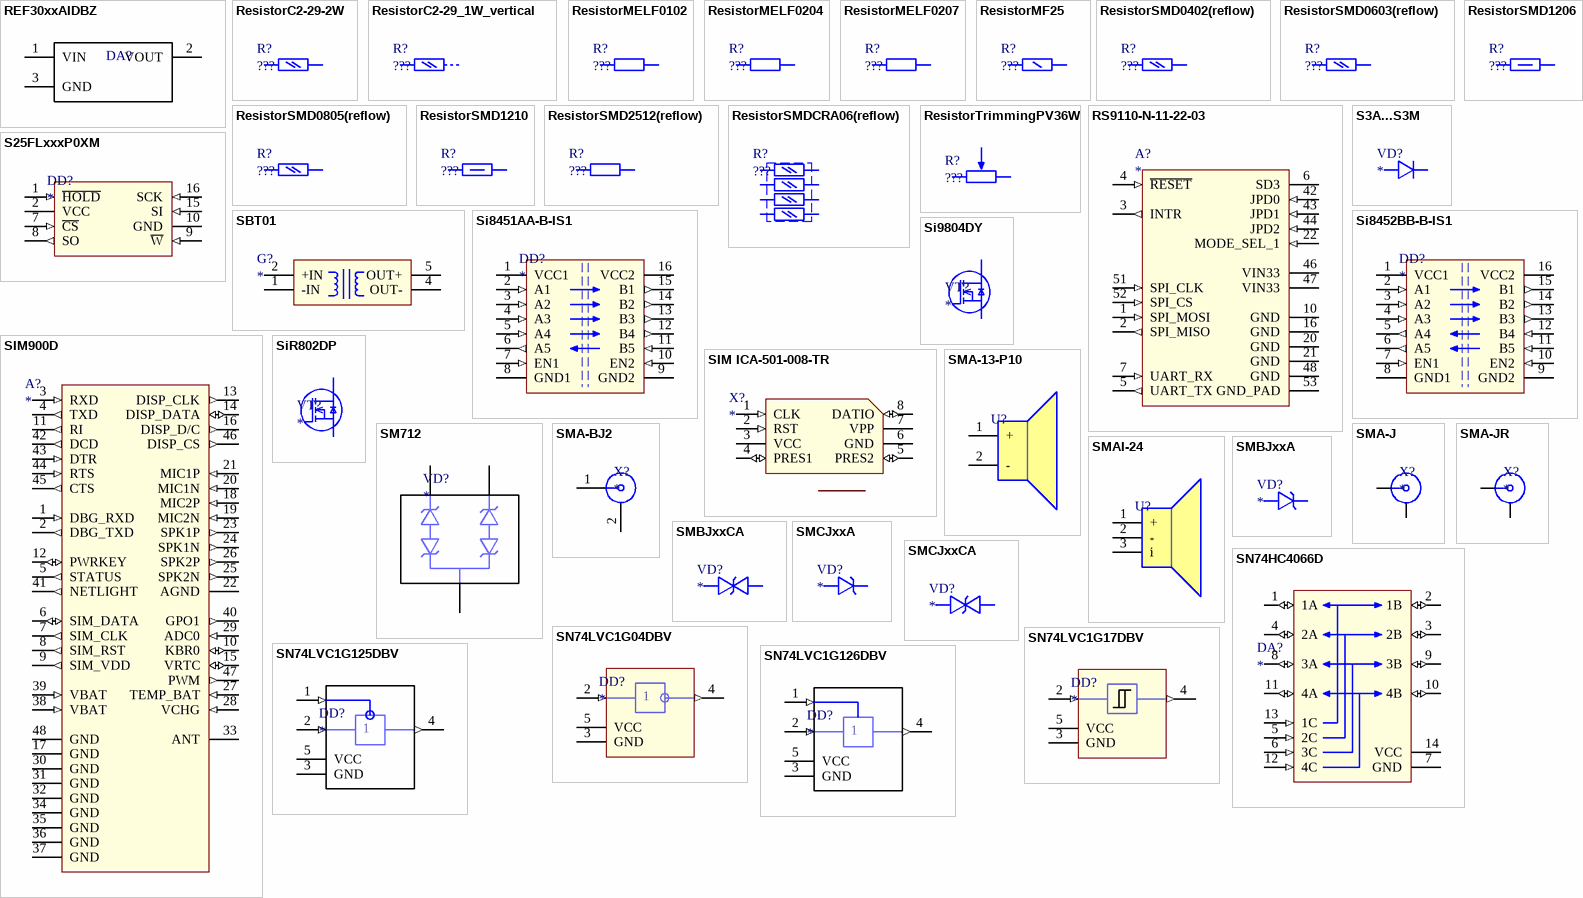
[diagram p19: symbols REF30xxAIDBZ to SN74LVC1G126DBV]

## REF30xxAIDBZ
designator DA?  (value not drawn)
IC Voltage Reference 1.25 2.048 2.5 3.0 3.3 4.096; Описание: Микросхема SOT23; NumberSolderPointsSMD: 0; Аналог: нет; NumberSolderPointsTHT: 0
footprint SOT23
pins: 1 VIN, 2 VOUT, 3 GND

## ResistorC2-29-2W
designator R?, comment ???
RESISTOR Resistor 1/4W; NumberSolderPointsSMD: 0; Аналог: нет; Описание: ???; NumberSolderPointsTHT: 0
footprint ResistorC2-29_2W
pins: 1, 2

## ResistorC2-29_1W_vertical
designator R?, comment ???
RESISTOR C2-29 1W vetical; NumberSolderPointsSMD: 0; Аналог: нет; Описание: ???; NumberSolderPointsTHT: 0
footprint ResistorC2-29_1W_vertical
pins: 1

## ResistorMELF0102
designator R?, comment ???
RESISTOR Resistor MELF 0102 2.2x1.1mm; NumberSolderPointsSMD: 0; Аналог: нет; Описание: ???; NumberSolderPointsTHT: 0
footprint MELF_0102
pins: 1, 2

## ResistorMELF0204
designator R?, comment ???
RESISTOR Resistor MELF 0204 3.6x1.4mm; NumberSolderPointsSMD: 0; Аналог: нет; Описание: ???; NumberSolderPointsTHT: 0
footprint MELF_0204
pins: 1, 2

## ResistorMELF0207
designator R?, comment ???
RESISTOR Resistor MELF 0207 5.8x2.2mm; NumberSolderPointsSMD: 0; Аналог: нет; Описание: ???; NumberSolderPointsTHT: 0
footprint MELF_0207
pins: 1, 2

## ResistorMF25
designator R?, comment ???
RESISTOR Resistor 1/4W; NumberSolderPointsSMD: 0; Аналог: нет; Описание: ???; NumberSolderPointsTHT: 0
footprint ResistorMF25
pins: 1, 2

## ResistorSMD0402(reflow)
designator R?, comment ???
RESISTOR Resistor SMD 0402 1.0x0.5mm; Описание: Резистор SMD 0402; NumberSolderPointsSMD: 0; Аналог: нет; NumberSolderPointsTHT: 0
footprint ResistorSMD0402(reflow)
pins: 1, 2

## ResistorSMD0603(reflow)
designator R?, comment ???
RESISTOR Resistor SMD 0603 1.6x0.8mm; Описание: Резистор SMD 0603; NumberSolderPointsSMD: 0; Аналог: нет; NumberSolderPointsTHT: 0
footprint ResistorSMD0603(reflow)
footprint ResistorSMD0603(manual)
pins: 1, 2

## ResistorSMD0805(reflow)
designator R?, comment ???
RESISTOR Resistor SMD 0805 2.0x1.2mm; Описание: Резистор SMD 0805; NumberSolderPointsSMD: 0; Аналог: нет; NumberSolderPointsTHT: 0
footprint ResistorSMD0805(reflow)
pins: 1, 2

## ResistorSMD1206
designator R?, comment ???
RESISTOR Resistor SMD 1210 3.1x1.6mm; Описание: Резистор SMD 1206; NumberSolderPointsSMD: 0; Аналог: нет; NumberSolderPointsTHT: 0
footprint ResistorSMD1206(manual)
pins: 1, 2

## ResistorSMD1210
designator R?, comment ???
RESISTOR Resistor SMD 1210 3.1x2.6mm; Описание: Резистор SMD 1210; NumberSolderPointsSMD: 0; Аналог: нет; NumberSolderPointsTHT: 0
footprint ResistorSMD1210(manual)
pins: 1, 2

## ResistorSMD2512(reflow)
designator R?, comment ???
RESISTOR Resistor SMD 2512 6.35x3.2mm; Описание: Резистор SMD 2512; NumberSolderPointsSMD: 0; Аналог: нет; NumberSolderPointsTHT: 0
footprint ResistorSMD2512(reflow)
pins: 1, 2

## ResistorSMDCRA06(reflow)
designator R?, comment ???
RESISTOR Quad Resistor Array , 0.8mm pitch; NumberSolderPointsSMD: 0; Аналог: нет; Описание: ???; NumberSolderPointsTHT: 0
footprint ResistorSMDCRA06(reflow) (4x resistor array 0.8mm-pitch)
pins: 1, 2, 3, 4, 5, 6, 7, 8

## ResistorTrimmingPV36W
designator R?, comment ???
RESISTOR Resistor trimming PV36W; NumberSolderPointsSMD: 0; Аналог: нет; Описание: ???; NumberSolderPointsTHT: 0
footprint PV36W
pins: 1, 2, 3

## RS9110-N-11-22-03
designator A?
MODULE RADIO WiFi module; Описание: ???; NumberSolderPointsSMD: 0; Аналог: нет; NumberSolderPointsTHT: 0
footprint RS9110-N-11-22 (WiFi module)
pins: 1 SPI_MOSI (in), 2 SPI_MISO (out), 3 INTR (out), 4 ~{RESET} (in), 5 UART_TX (out), 6 SD3, 7 UART_RX (in), 10 GND (power), 16 GND (power), 20 GND (power), 21 GND (power), 22 MODE_SEL_1 (in), 42 JPD0 (in), 43 JPD1 (in), 44 JPD2 (in), 46 VIN33 (power), 47 VIN33 (power), 48 GND (power), 51 SPI_CLK (in), 52 SPI_CS (in), 53 GND_PAD (power)

## S3A...S3M
designator VD?
DIODE 3A general purpose rectifier; Описание: ???; NumberSolderPointsSMD: 0; Аналог: нет; NumberSolderPointsTHT: 0
footprint SMC
pins: 1, 2

## S25FLxxxP0XM
designator DD?
IC MEMORY; Описание: ???; NumberSolderPointsSMD: 0; Аналог: нет; NumberSolderPointsTHT: 0
footprint SO16W
pins: 1 ~{HOLD} (in), 2 VCC (power), 7 ~{CS} (in), 8 SO (out), 9 ~{W} (in), 10 GND (power), 15 SI (in), 16 SCK (in)

## SBT01
designator G?
MODULE POWER 1W smd; Описание: ???; NumberSolderPointsSMD: 0; Аналог: нет; NumberSolderPointsTHT: 0
footprint SBT01
pins: 1 -IN (power), 2 +IN (power), 4 OUT- (power), 5 OUT+ (power)

## Si8451AA-B-IS1
designator DD?
IC ISOLATOR; Описание: ???; NumberSolderPointsSMD: 0; Аналог: нет; NumberSolderPointsTHT: 0
footprint SO16
pins: 1 VCC1 (power), 2 A1 (in), 3 A2 (in), 4 A3 (in), 5 A4 (in), 6 A5 (out), 7 EN1 (in), 8 GND1 (power), 9 GND2 (power), 10 EN2 (in), 11 B5 (in), 12 B4 (out), 13 B3 (out), 14 B2 (out), 15 B1 (out), 16 VCC2 (power)

## Si8452BB-B-IS1
designator DD?
IC ISOLATOR; Описание: ???; NumberSolderPointsSMD: 0; Аналог: нет; NumberSolderPointsTHT: 0
footprint SO16
pins: 1 VCC1 (power), 2 A1 (in), 3 A2 (in), 4 A3 (in), 5 A4 (out), 6 A5 (out), 7 EN1 (in), 8 GND1 (power), 9 GND2 (power), 10 EN2 (in), 11 B5 (in), 12 B4 (in), 13 B3 (out), 14 B2 (out), 15 B1 (out), 16 VCC2 (power)

## Si9804DY
designator VT?
TRANSISTOR N-Channel Fast Switching MOSFET (0.6V Gate Threshold); Описание: ???; NumberSolderPointsSMD: 0; Аналог: нет; NumberSolderPointsTHT: 0
footprint SO8_nMOSFET
pins: 1 S, 2 G, 3 D

## SIM900D
designator A?
MODULE RADIO Quad-band GSM/GPRS engine; Описание: ???; NumberSolderPointsSMD: 0; Аналог: нет; NumberSolderPointsTHT: 0
footprint SIM900D
pins: 1 DBG_RXD (in), 2 DBG_TXD (out), 3 RXD (in), 4 TXD (out), 5 STATUS (out), 6 SIM_DATA (io), 7 SIM_CLK (out), 8 SIM_RST (out), 9 SIM_VDD (out), 10 KBR0 (io), 11 RI (out), 12 PWRKEY (io), 13 DISP_CLK (out), 14 DISP_DATA (io), 15 VRTC (io), 16 DISP_D/C (out), 17 GND (power), 18 MIC2P (in), 19 MIC2N (in), 20 MIC1N (in), 21 MIC1P (in), 22 AGND (power), 23 SPK1P (out), 24 SPK1N (out), 25 SPK2N (out), 26 SPK2P (out), 27 TEMP_BAT (in), 28 VCHG (in), 29 ADC0 (in), 30 GND (power), 31 GND (power), 32 GND (power), 33 ANT (power), 34 GND (power), 35 GND (power), 36 GND (power), 37 GND (power), 38 VBAT (in), 39 VBAT (in), 40 GPO1 (out), 41 NETLIGHT (out), 42 DCD (out), 43 DTR (in), 44 RTS (in), 45 CTS (out), 46 DISP_CS (out), 47 PWM (out), 48 GND (power)

## SIM ICA-501-008-TR
designator X?
CONNECTOR SIM card holder 8 pins; Описание: ???; NumberSolderPointsSMD: 0; Аналог: нет; NumberSolderPointsTHT: 0
footprint SIM ICA-501-008-TR
pins: 1 CLK (in), 2 RST (in), 3 VCC (power), 4 PRES1 (io), 5 PRES2 (io), 6 GND (power), 7 VPP, 8 DATIO (io)

## SiR802DP
designator VT?
TRANSISTOR N-Channel Fast Switching MOSFET (0.6V Gate Threshold); Описание: ???; NumberSolderPointsSMD: 0; Аналог: нет; NumberSolderPointsTHT: 0
footprint SO8_PowerPAK_nMOSFET
pins: 1 S, 2 G, 3 D

## SM712
designator VD?
DIODE TVS Asymmetrical for Rs-485; Описание: Диод SMB; NumberSolderPointsSMD: 0; Аналог: нет; NumberSolderPointsTHT: 0
footprint SOT23
pins: 1, 2, 3

## SMA-13-P10
designator U?  (value not drawn)
MODULE SOUND Piezo buzzer; Описание: ???; NumberSolderPointsSMD: 0; NumberSolderPointsTHT: 2; Аналог: нет
footprint SMA-13-P10 (Piezo generator)
pins: 1 +, 2 -

## SMA-BJ2
designator X?
CONNECTOR SMA connector - straight with flange; Описание: Разъем; NumberSolderPointsSMD: 0; Аналог: нет; NumberSolderPointsTHT: 0
footprint SMA-BJ2
pins: 1, 2

## SMA-J
designator X?
CONNECTOR SMA FEMALE; Описание: Разъем; NumberSolderPointsSMD: 0; Аналог: нет; Комплект: SMA-C174P; NumberSolderPointsTHT: 0
footprint SMA-J
pins: 1, 2

## SMA-JR
designator X?
CONNECTOR SMA FEMALE; Описание: Разъем; NumberSolderPointsSMD: 0; Аналог: нет; Комплект: SMA-C174P; NumberSolderPointsTHT: 0
footprint SMA-JR
pins: 1, 2

## SMAI-24
designator U?  (value not drawn)
MODULE SOUND Piezo buzzer; Описание: ???; NumberSolderPointsSMD: 0; Аналог: нет; NumberSolderPointsTHT: 0
footprint SMAI-24 (Piezo generator)
pins: 1 +, 2 -, 3 i

## SMBJxxA
designator VD?
DIODE TVS Unidirectional 300W TRANSIL 5V...188V; Описание: Диод SMB; NumberSolderPointsSMD: 0; Аналог: нет; NumberSolderPointsTHT: 0
footprint SMB_10BQ40
pins: 1, 2

## SMBJxxCA
designator VD?
DIODE TVS Bidirectional 300W TRANSIL 3.3V...188V; Описание: Диод SMB; NumberSolderPointsSMD: 0; Аналог: нет; NumberSolderPointsTHT: 0
footprint SMB_10BQ40
pins: 1, 2

## SMCJxxA
designator VD?
DIODE TVS Unidirectional 1500W TRANSIL 5V...188V; Описание: Диод SMC; NumberSolderPointsSMD: 0; Аналог: нет; NumberSolderPointsTHT: 0
footprint SMC
pins: 1, 2

## SMCJxxCA
designator VD?
DIODE TVS Bidirectional 1500W TRANSIL 5V...188V; Описание: Диод SMC; NumberSolderPointsSMD: 0; Аналог: нет; NumberSolderPointsTHT: 0
footprint SMC
pins: 1, 2

## SN74HC4066D
designator DA?
IC Quadruple bilateral analog switch; Описание: ???; NumberSolderPointsSMD: 0; Аналог: нет; NumberSolderPointsTHT: 0
footprint SO14
pins: 1 1A (io), 2 1B (io), 3 2B (io), 4 2A (io), 5 2C (in), 6 3C (in), 7 GND, 8 3A (io), 9 3B (io), 10 4B (io), 11 4A (io), 12 4C (in), 13 1C (in), 14 VCC

## SN74LVC1G04DBV
designator DD?
IC single inverter gate, sot23-5; Описание: Микросхема SOT23-5; NumberSolderPointsSMD: 0; Аналог: нет; NumberSolderPointsTHT: 0
footprint SOT23-5
pins: 2 (in), 3 GND (power), 4 (out), 5 VCC (power)
text: 1

## SN74LVC1G17DBV
designator DD?
IC single schmitt trigger buffer; Описание: Микросхема SOT23-5; NumberSolderPointsSMD: 0; Аналог: нет; NumberSolderPointsTHT: 0
footprint SOT23-5
pins: 2 (in), 3 GND (power), 4 (out), 5 VCC (power)

## SN74LVC1G125DBV
designator DD?
IC Single Bus Buffer Gate with 3-State Output, sot23-5; Описание: Микросхема SOT23-5; NumberSolderPointsSMD: 0; Аналог: нет; NumberSolderPointsTHT: 0
footprint SOT23-5
pins: 1 (in), 2 (in), 3 GND (power), 4 (out), 5 VCC (power)

## SN74LVC1G126DBV
designator DD?
IC Single Bus Buffer Gate with 3-State Output, sot23-5; Описание: Микросхема SOT23-5; NumberSolderPointsSMD: 0; Аналог: нет; NumberSolderPointsTHT: 0
footprint SOT23-5
pins: 1 (in), 2 (in), 3 GND (power), 4 (out), 5 VCC (power)

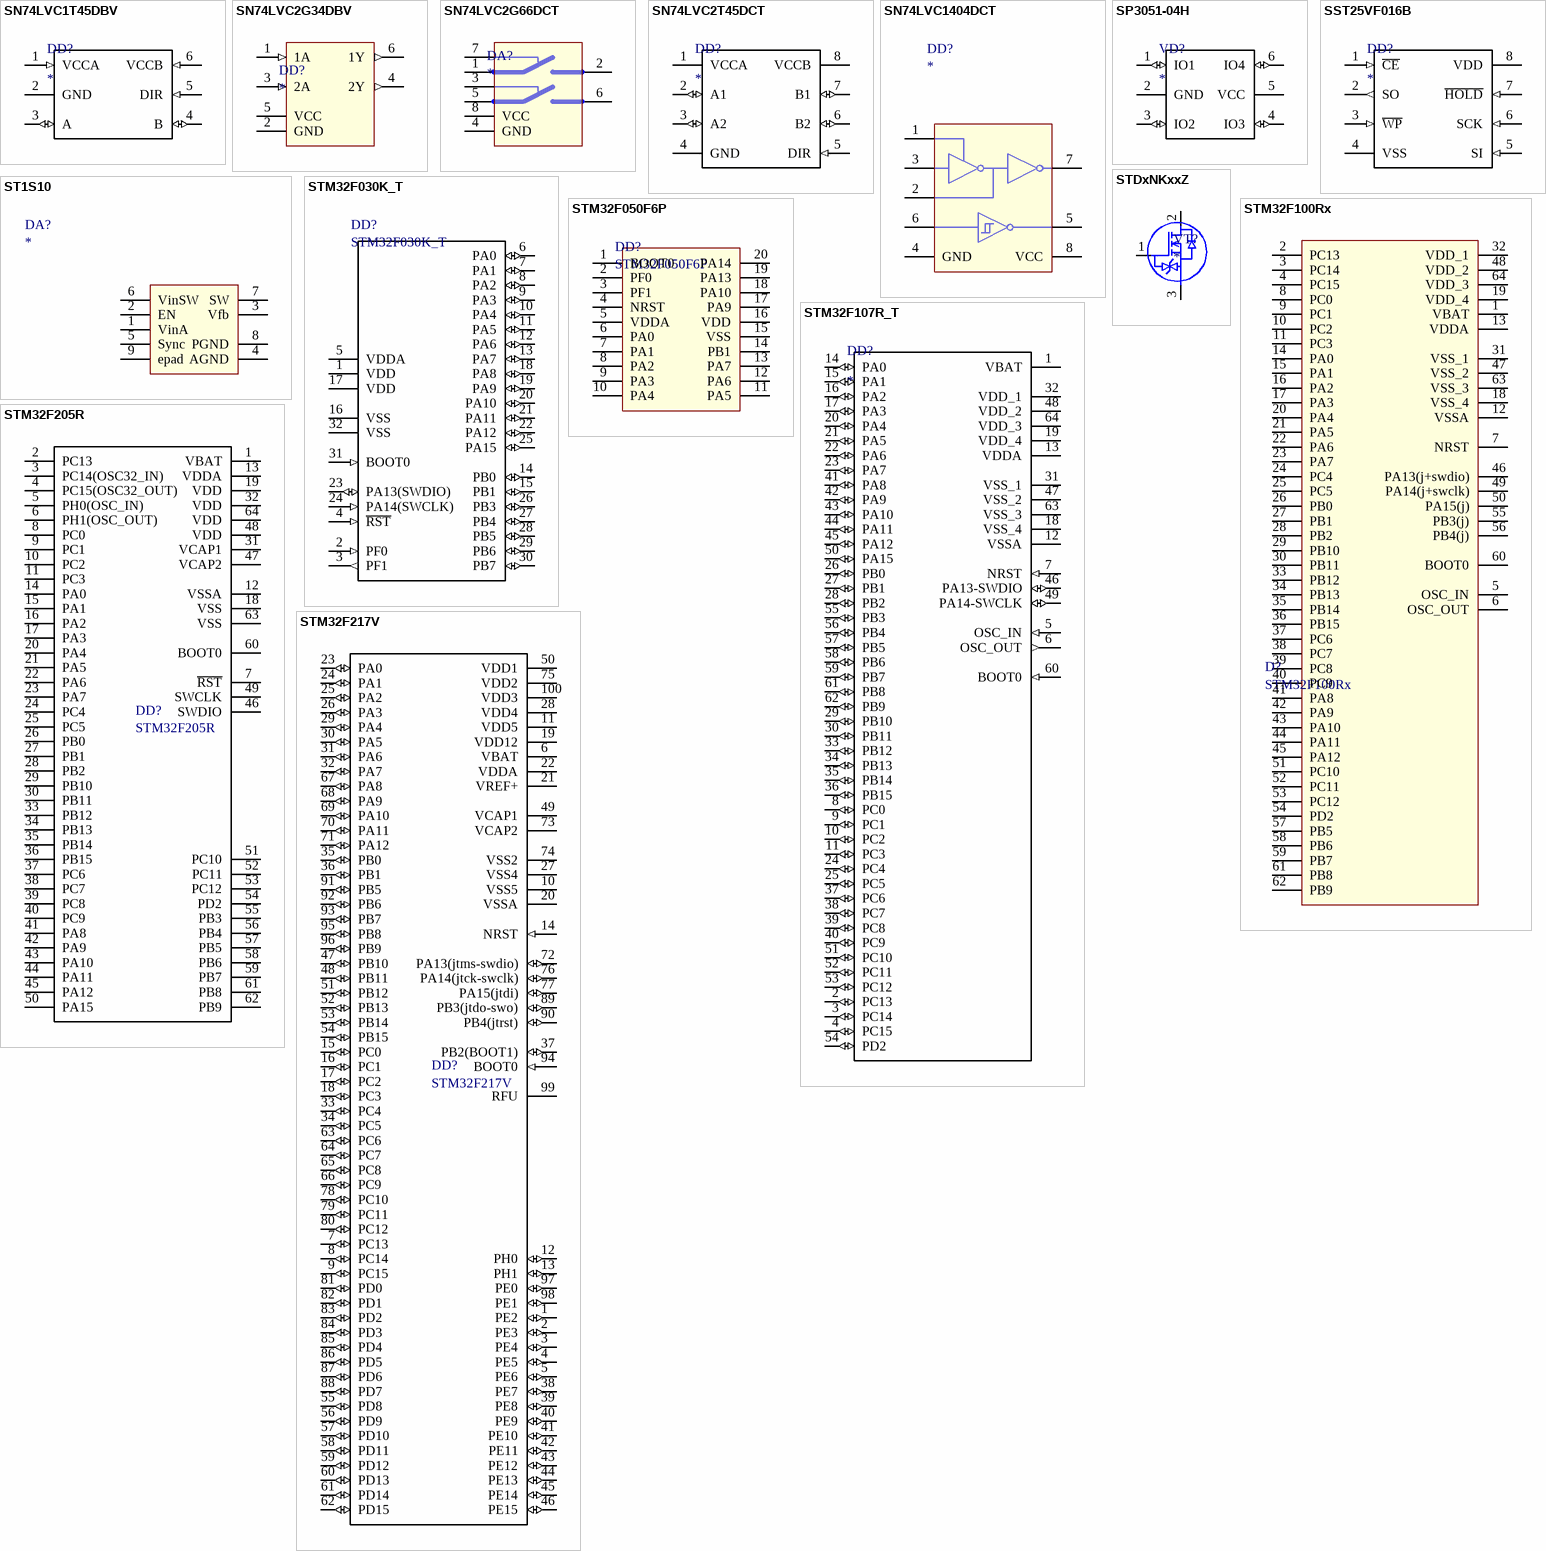
[diagram p20: symbols SN74LVC1T45DBV to STM32F217V]

## SN74LVC1T45DBV
designator DD?
IC LOGIC 1-bit level-shifter; Аналог: SN74AVC1T45DBV; Описание: Микросхема SOT23-6
footprint SOT23-6
pins: 1 VCCA (in), 2 GND (power), 3 A (io), 4 B (io), 5 DIR (in), 6 VCCB (in)

## SN74LVC2G34DBV
designator DD?
IC single schmitt trigger buffer; Описание: Микросхема SOT23-5; NumberSolderPointsSMD: 0; Аналог: нет; NumberSolderPointsTHT: 0
footprint SOT23-6
pins: 1 1A (in), 2 GND (power), 3 2A (in), 4 2Y (out), 5 VCC (power), 6 1Y (out)

## SN74LVC2G66DCT
designator DA?
IC dual bilateral analog switch; Описание: ???; NumberSolderPointsSMD: 0; Аналог: нет; NumberSolderPointsTHT: 0
footprint SSOP8_SN74LVC2G66
pins: 1 1A, 2 1B, 3 2C, 4 GND, 5 2A, 6 2B, 7 1C, 8 VCC

## SN74LVC2T45DCT
designator DD?
IC LOGIC 2-bit level-shifter; Аналог: SN74AVC1T45DBV; Описание: Микросхема SOT23-6
footprint SSOP8_TI_DCT
pins: 1 VCCA (power), 2 A1 (io), 3 A2 (io), 4 GND (power), 5 DIR (in), 6 B2 (io), 7 B1 (io), 8 VCCB (power)

## SN74LVC1404DCT
designator DD?
IC Oscillator driver for crystal oscillator or ceramic resonator; Описание: ???; NumberSolderPointsSMD: 0; Аналог: нет; NumberSolderPointsTHT: 0
footprint SSOP8_SN74LVC1404
pins: 1 CTRL, 2 XOUT, 3 XIN, 4 GND, 5 Y, 6 A, 7 OSCOUT, 8 VCC

## SP3051-04H
designator VD?
DIODE TVS; Описание: Диод.сборка SOT23-6; x: *; Аналог: *
footprint SOT23-6
pins: 1 IO1 (io), 2 GND (power), 3 IO2 (io), 4 IO3 (io), 5 VCC (power), 6 IO4 (io)

## SST25VF016B
designator DD?
IC MEMORY; Аналог: нет; Описание: ???
footprint SO8W
pins: 1 ~{CE} (in), 2 SO (out), 3 ~{WP} (in), 4 VSS (power), 5 SI (in), 6 SCK (in), 7 ~{HOLD} (in), 8 VDD (power)

## ST1S10
designator DA?
IC 3 A, 900 kHz, monolithic synchronous  step-down regulator; Описание: ???; NumberSolderPointsSMD: 0; Аналог: нет; NumberSolderPointsTHT: 0
footprint SO8POWER
pins: 1 VinA, 2 EN, 3 Vfb, 4 AGND, 5 Sync, 6 VinSW, 7 SW, 8 PGND, 9 epad

## STDxNKxxZ
designator VT?
TRANSISTOR N-Channel zener-protected power MOSFET in DPAK; Описание: ???; NumberSolderPointsSMD: 0; Аналог: нет; NumberSolderPointsTHT: 0
footprint DPAK
pins: 1 G, 2 D, 3 S

## STM32F030K_T
designator DD?
IC 32-bit ARM Cortex-M3 microcontroller; Описание: Микросхема LQFP32; NumberSolderPointsSMD: 0; Аналог: нет; NumberSolderPointsTHT: 0
footprint LQFP32_STM32
pins: 1 VDD (power), 2 PF0 (in), 3 PF1 (out), 4 ~{RST} (in), 5 VDDA (power), 6 PA0 (io), 7 PA1 (io), 8 PA2 (io), 9 PA3 (io), 10 PA4 (io), 11 PA5 (io), 12 PA6 (io), 13 PA7 (io), 14 PB0 (io), 15 PB1 (io), 16 VSS (power), 17 VDD (power), 18 PA8 (io), 19 PA9 (io), 20 PA10 (io), 21 PA11 (io), 22 PA12 (io), 23 PA13(SWDIO) (io), 24 PA14(SWCLK) (in), 25 PA15 (io), 26 PB3 (io), 27 PB4 (io), 28 PB5 (io), 29 PB6 (io), 30 PB7 (io), 31 BOOT0 (in), 32 VSS (power)

## STM32F050F6P
designator DD?
IC 32-bit ARM Cortex-M3 microcontroller; Описание: ???; NumberSolderPointsSMD: 0; Аналог: нет; NumberSolderPointsTHT: 0
footprint TSSOP20
pins: 1 BOOT0, 2 PF0, 3 PF1, 4 NRST, 5 VDDA, 6 PA0, 7 PA1, 8 PA2, 9 PA3, 10 PA4, 11 PA5, 12 PA6, 13 PA7, 14 PB1, 15 VSS, 16 VDD, 17 PA9, 18 PA10, 19 PA13, 20 PA14